# Altium integrated library Altera Cyclone II.IntLib: 234 symbols (part 5 of 38)
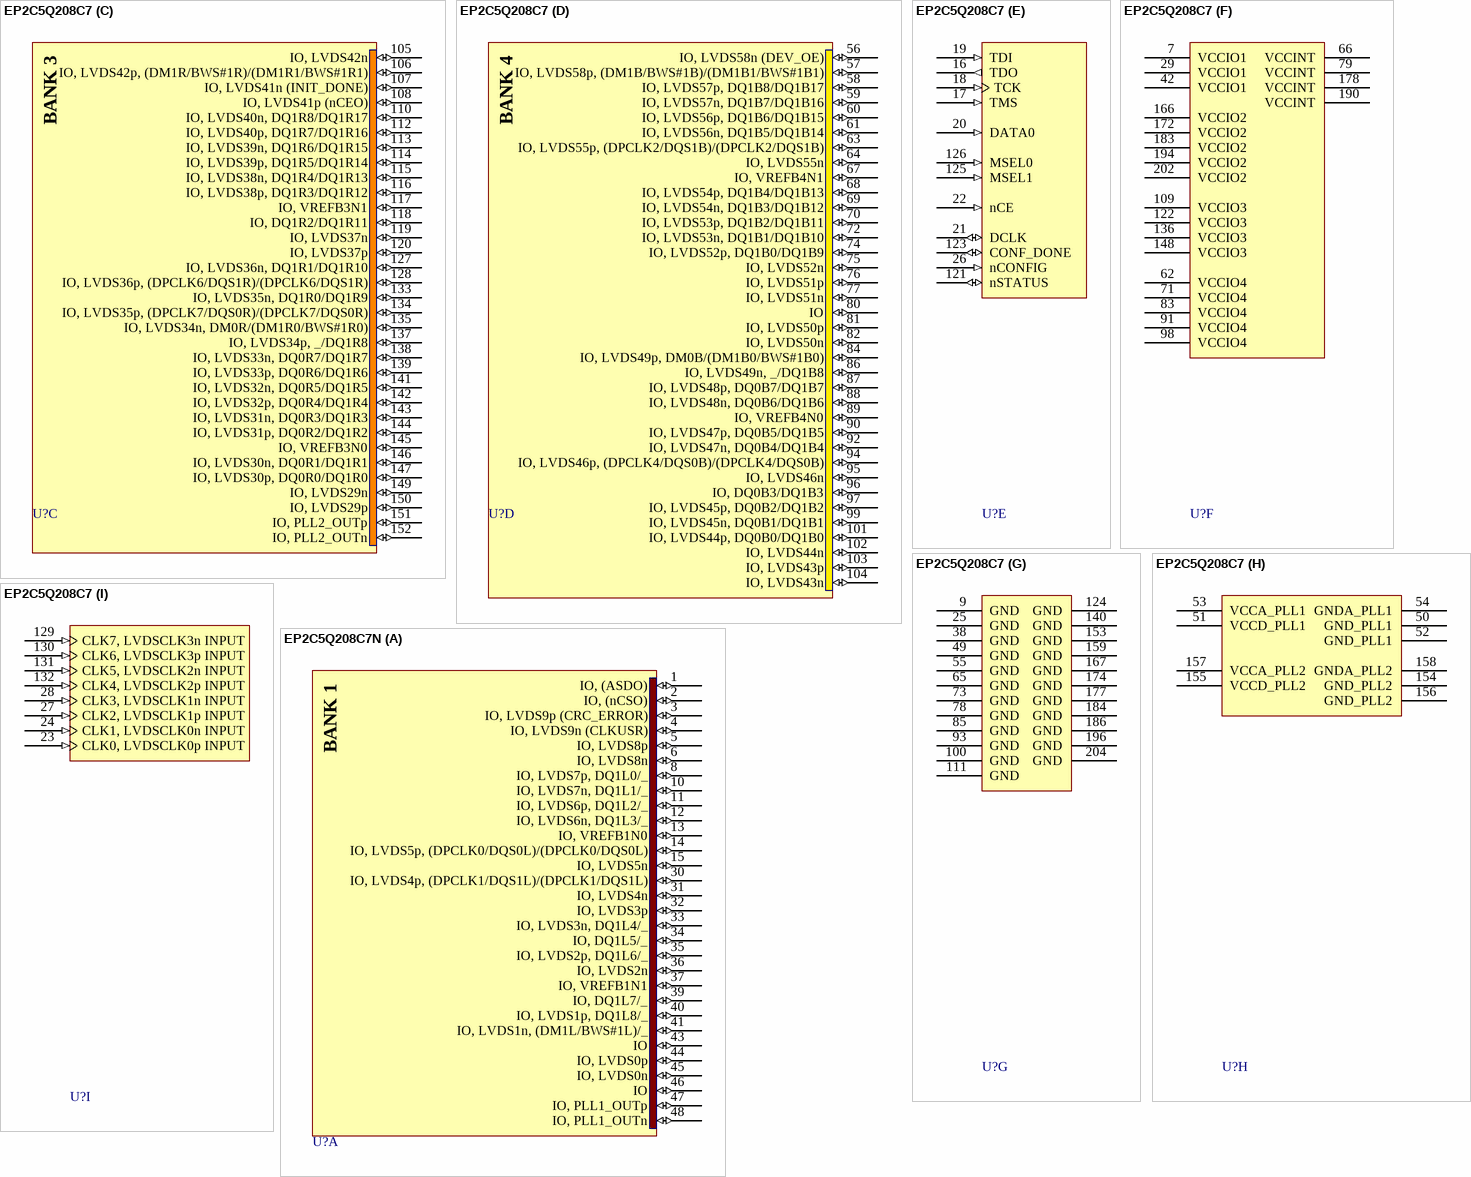
[diagram p401: symbols EP2C5Q208C7 to EP2C5Q208C7N]

## EP2C5Q208C7
designator U?
Cyclone II Family, 1.2V FPGA, 142 I/O Pins, 2 PLLs, 208-Pin PQFP, Speed Grade 7, Commercial Grade; Note: DQS signal pins named according to DQ bus modes.  "/" separates each mode. ie. Modes x8/x9 / Modes x16/x18.; Published: 4-Mar-2005; LatestRevisionDate: 14-May-2007; LatestRevisionNote: DATA0 pin is now INPUT.; DatasheetVersion: ver3.3, Feb-2008; PackageVersion: ver15.4, Dec-2008; PackageReference: PQFP208; Publisher: Altium Limited; PackageDescription: 208-Pin Plastic Quad Flat Pack (PQFP208) - Wire Bond; Supplier 1: Digi-Key; Supplier Part Number 1: 544-1447-ND; Code_JEDEC: MS-029-FA-1; ComponentLink1Description: Manufacturer Link; ComponentLink1URL: http://www.altera.com/products/devices/cyclone2/cy2-index.jsp; ComponentLink2Description: Handbook; ComponentLink2URL: http://www.altera.com/literature/hb/cyc2/cyc2_cii5v1.pdf; ComponentLink3Description: Packaging Specification; ComponentLink3URL: http://www.altera.com/literature/ds/dspkg.pdf
footprint PQFP208_N (Shrink QFP, 208-Leads, Body 28x28mm, Pitch 0.5mm, IPC Medium Density)
footprint PQFP208_L (Shrink QFP, 208-Leads, Body 28x28mm, Pitch 0.5mm, IPC High Density)
footprint PQFP208_M (Shrink QFP, 208-Leads, Body 28x28mm, Pitch 0.5mm, IPC Low Density)
3D model EP2C5-PQFP208 (208-Pin Plastic Quad Flat Pack (PQFP208) - Wire Bond)
signal-integrity model EP2C5Q_208 (Cyclone II)
part A pins: 1 IO, (ASDO) (io), 2 IO, (nCSO) (io), 3 IO, LVDS9p (CRC_ERROR) (io), 4 IO, LVDS9n (CLKUSR) (io), 5 IO, LVDS8p (io), 6 IO, LVDS8n (io), 8 IO, LVDS7p, DQ1L0/_ (io), 10 IO, LVDS7n, DQ1L1/_ (io), 11 IO, LVDS6p, DQ1L2/_ (io), 12 IO, LVDS6n, DQ1L3/_ (io), 13 IO, VREFB1N0 (io), 14 IO, LVDS5p, (DPCLK0/DQS0L)/(DPCLK0/DQS0L) (io), 15 IO, LVDS5n (io), 30 IO, LVDS4p, (DPCLK1/DQS1L)/(DPCLK1/DQS1L) (io), 31 IO, LVDS4n (io), 32 IO, LVDS3p (io), 33 IO, LVDS3n, DQ1L4/_ (io), 34 IO, DQ1L5/_ (io), 35 IO, LVDS2p, DQ1L6/_ (io), 36 IO, LVDS2n (io), 37 IO, VREFB1N1 (io), 39 IO, DQ1L7/_ (io), 40 IO, LVDS1p, DQ1L8/_ (io), 41 IO, LVDS1n, (DM1L/BWS#1L)/_ (io), 43 IO (io), 44 IO, LVDS0p (io), 45 IO, LVDS0n (io), 46 IO (io), 47 IO, PLL1_OUTp (io), 48 IO, PLL1_OUTn (io)
part B pins: 160 IO, LVDS28n (io), 161 IO, LVDS28p, DQ0T0/DQ1T0 (io), 162 IO, LVDS27n, DQ0T1/DQ1T1 (io), 163 IO, LVDS27p, DQ0T2/DQ1T2 (io), 164 IO, LVDS26n, DQ0T3/DQ1T3 (io), 165 IO, LVDS26p, DQ0T4/DQ1T4 (io), 168 IO, LVDS25n (io), 169 IO, LVDS25p, (DPCLK8/DQS0T)/(DPCLK8/DQS0T) (io), 170 IO, VREFB2N0 (io), 171 IO, LVDS24n, DQ0T5/DQ1T5 (io), 173 IO, LVDS24p, DQ0T6/DQ1T6 (io), 175 IO, LVDS23n, DQ0T7/DQ1T7 (io), 176 IO, LVDS23p, _/DQ1T8 (io), 179 IO, LVDS21n, DM0T/(DM1T0/BWS#1T0) (io), 180 IO, LVDS21p (io), 181 IO, LVDS20n (io), 182 IO, LVDS20p (io), 185 IO, DQ1T0/DQ1T9 (io), 187 IO, LVDS19n (io), 188 IO, LVDS19p, DQ1T1/DQ1T10 (io), 189 IO, LVDS18n, DQ1T2/DQ1T11 (io), 191 IO, LVDS18p, DQ1T3/DQ1T12 (io), 192 IO, VREFB2N1 (io), 193 IO, LVDS17n, DQ1T4/DQ1T13 (io), 195 IO, LVDS17p, DQ1T5/DQ1T14 (io), 197 IO, LVDS15n (io), 198 IO, LVDS15p (io), 199 IO, LVDS13n (io), 200 IO, LVDS13p, (DPCLK10/DQS1T)/(DPCLK10/DQS1T) (io), 201 IO, LVDS12n, DQ1T6/DQ1T15 (io), 203 IO, LVDS12p, DQ1T7/DQ1T16 (io), 205 IO, LVDS11p, DQ1T8/DQ1T17 (io), 206 IO, LVDS11n (DEV_CLRn) (io), 207 IO, LVDS10p, (DM1T/BWS#1T)/(DM1T1/BWS#1T1) (io), 208 IO, LVDS10n (io)
part C pins: 105 IO, LVDS42n (io), 106 IO, LVDS42p, (DM1R/BWS#1R)/(DM1R1/BWS#1R1) (io), 107 IO, LVDS41n (INIT_DONE) (io), 108 IO, LVDS41p (nCEO) (io), 110 IO, LVDS40n, DQ1R8/DQ1R17 (io), 112 IO, LVDS40p, DQ1R7/DQ1R16 (io), 113 IO, LVDS39n, DQ1R6/DQ1R15 (io), 114 IO, LVDS39p, DQ1R5/DQ1R14 (io), 115 IO, LVDS38n, DQ1R4/DQ1R13 (io), 116 IO, LVDS38p, DQ1R3/DQ1R12 (io), 117 IO, VREFB3N1 (io), 118 IO, DQ1R2/DQ1R11 (io), 119 IO, LVDS37n (io), 120 IO, LVDS37p (io), 127 IO, LVDS36n, DQ1R1/DQ1R10 (io), 128 IO, LVDS36p, (DPCLK6/DQS1R)/(DPCLK6/DQS1R) (io), 133 IO, LVDS35n, DQ1R0/DQ1R9 (io), 134 IO, LVDS35p, (DPCLK7/DQS0R)/(DPCLK7/DQS0R) (io), 135 IO, LVDS34n, DM0R/(DM1R0/BWS#1R0) (io), 137 IO, LVDS34p, _/DQ1R8 (io), 138 IO, LVDS33n, DQ0R7/DQ1R7 (io), 139 IO, LVDS33p, DQ0R6/DQ1R6 (io), 141 IO, LVDS32n, DQ0R5/DQ1R5 (io), 142 IO, LVDS32p, DQ0R4/DQ1R4 (io), 143 IO, LVDS31n, DQ0R3/DQ1R3 (io), 144 IO, LVDS31p, DQ0R2/DQ1R2 (io), 145 IO, VREFB3N0 (io), 146 IO, LVDS30n, DQ0R1/DQ1R1 (io), 147 IO, LVDS30p, DQ0R0/DQ1R0 (io), 149 IO, LVDS29n (io), 150 IO, LVDS29p (io), 151 IO, PLL2_OUTp (io), 152 IO, PLL2_OUTn (io)
part D pins: 56 IO, LVDS58n (DEV_OE) (io), 57 IO, LVDS58p, (DM1B/BWS#1B)/(DM1B1/BWS#1B1) (io), 58 IO, LVDS57p, DQ1B8/DQ1B17 (io), 59 IO, LVDS57n, DQ1B7/DQ1B16 (io), 60 IO, LVDS56p, DQ1B6/DQ1B15 (io), 61 IO, LVDS56n, DQ1B5/DQ1B14 (io), 63 IO, LVDS55p, (DPCLK2/DQS1B)/(DPCLK2/DQS1B) (io), 64 IO, LVDS55n (io), 67 IO, VREFB4N1 (io), 68 IO, LVDS54p, DQ1B4/DQ1B13 (io), 69 IO, LVDS54n, DQ1B3/DQ1B12 (io), 70 IO, LVDS53p, DQ1B2/DQ1B11 (io), 72 IO, LVDS53n, DQ1B1/DQ1B10 (io), 74 IO, LVDS52p, DQ1B0/DQ1B9 (io), 75 IO, LVDS52n (io), 76 IO, LVDS51p (io), 77 IO, LVDS51n (io), 80 IO (io), 81 IO, LVDS50p (io), 82 IO, LVDS50n (io), 84 IO, LVDS49p, DM0B/(DM1B0/BWS#1B0) (io), 86 IO, LVDS49n, _/DQ1B8 (io), 87 IO, LVDS48p, DQ0B7/DQ1B7 (io), 88 IO, LVDS48n, DQ0B6/DQ1B6 (io), 89 IO, VREFB4N0 (io), 90 IO, LVDS47p, DQ0B5/DQ1B5 (io), 92 IO, LVDS47n, DQ0B4/DQ1B4 (io), 94 IO, LVDS46p, (DPCLK4/DQS0B)/(DPCLK4/DQS0B) (io), 95 IO, LVDS46n (io), 96 IO, DQ0B3/DQ1B3 (io), 97 IO, LVDS45p, DQ0B2/DQ1B2 (io), 99 IO, LVDS45n, DQ0B1/DQ1B1 (io), 101 IO, LVDS44p, DQ0B0/DQ1B0 (io), 102 IO, LVDS44n (io), 103 IO, LVDS43p (io), 104 IO, LVDS43n (io)
part E pins: 16 TDO (out), 17 TMS (in), 18 TCK (in), 19 TDI (in), 20 DATA0 (in), 21 DCLK (io), 22 nCE (in), 26 nCONFIG (in), 121 nSTATUS (io), 123 CONF_DONE (io), 125 MSEL1 (in), 126 MSEL0 (in)
part F pins: 7 VCCIO1 (power), 29 VCCIO1 (power), 42 VCCIO1 (power), 62 VCCIO4 (power), 66 VCCINT (power), 71 VCCIO4 (power), 79 VCCINT (power), 83 VCCIO4 (power), 91 VCCIO4 (power), 98 VCCIO4 (power), 109 VCCIO3 (power), 122 VCCIO3 (power), 136 VCCIO3 (power), 148 VCCIO3 (power), 166 VCCIO2 (power), 172 VCCIO2 (power), 178 VCCINT (power), 183 VCCIO2 (power), 190 VCCINT (power), 194 VCCIO2 (power), 202 VCCIO2 (power)
part G pins: 9 GND (power), 25 GND (power), 38 GND (power), 49 GND (power), 55 GND (power), 65 GND (power), 73 GND (power), 78 GND (power), 85 GND (power), 93 GND (power), 100 GND (power), 111 GND (power), 124 GND (power), 140 GND (power), 153 GND (power), 159 GND (power), 167 GND (power), 174 GND (power), 177 GND (power), 184 GND (power), 186 GND (power), 196 GND (power), 204 GND (power)
part H pins: 50 GND_PLL1 (power), 51 VCCD_PLL1 (power), 52 GND_PLL1 (power), 53 VCCA_PLL1 (power), 54 GNDA_PLL1 (power), 154 GND_PLL2 (power), 155 VCCD_PLL2 (power), 156 GND_PLL2 (power), 157 VCCA_PLL2 (power), 158 GNDA_PLL2 (power)
part I pins: 23 CLK0, LVDSCLK0p INPUT (in), 24 CLK1, LVDSCLK0n INPUT (in), 27 CLK2, LVDSCLK1p INPUT (in), 28 CLK3, LVDSCLK1n INPUT (in), 129 CLK7, LVDSCLK3n INPUT (in), 130 CLK6, LVDSCLK3p INPUT (in), 131 CLK5, LVDSCLK2n INPUT (in), 132 CLK4, LVDSCLK2p INPUT (in)
part A text: BANK 1
part B text: BANK 2
part C text: BANK 3
part D text: BANK 4

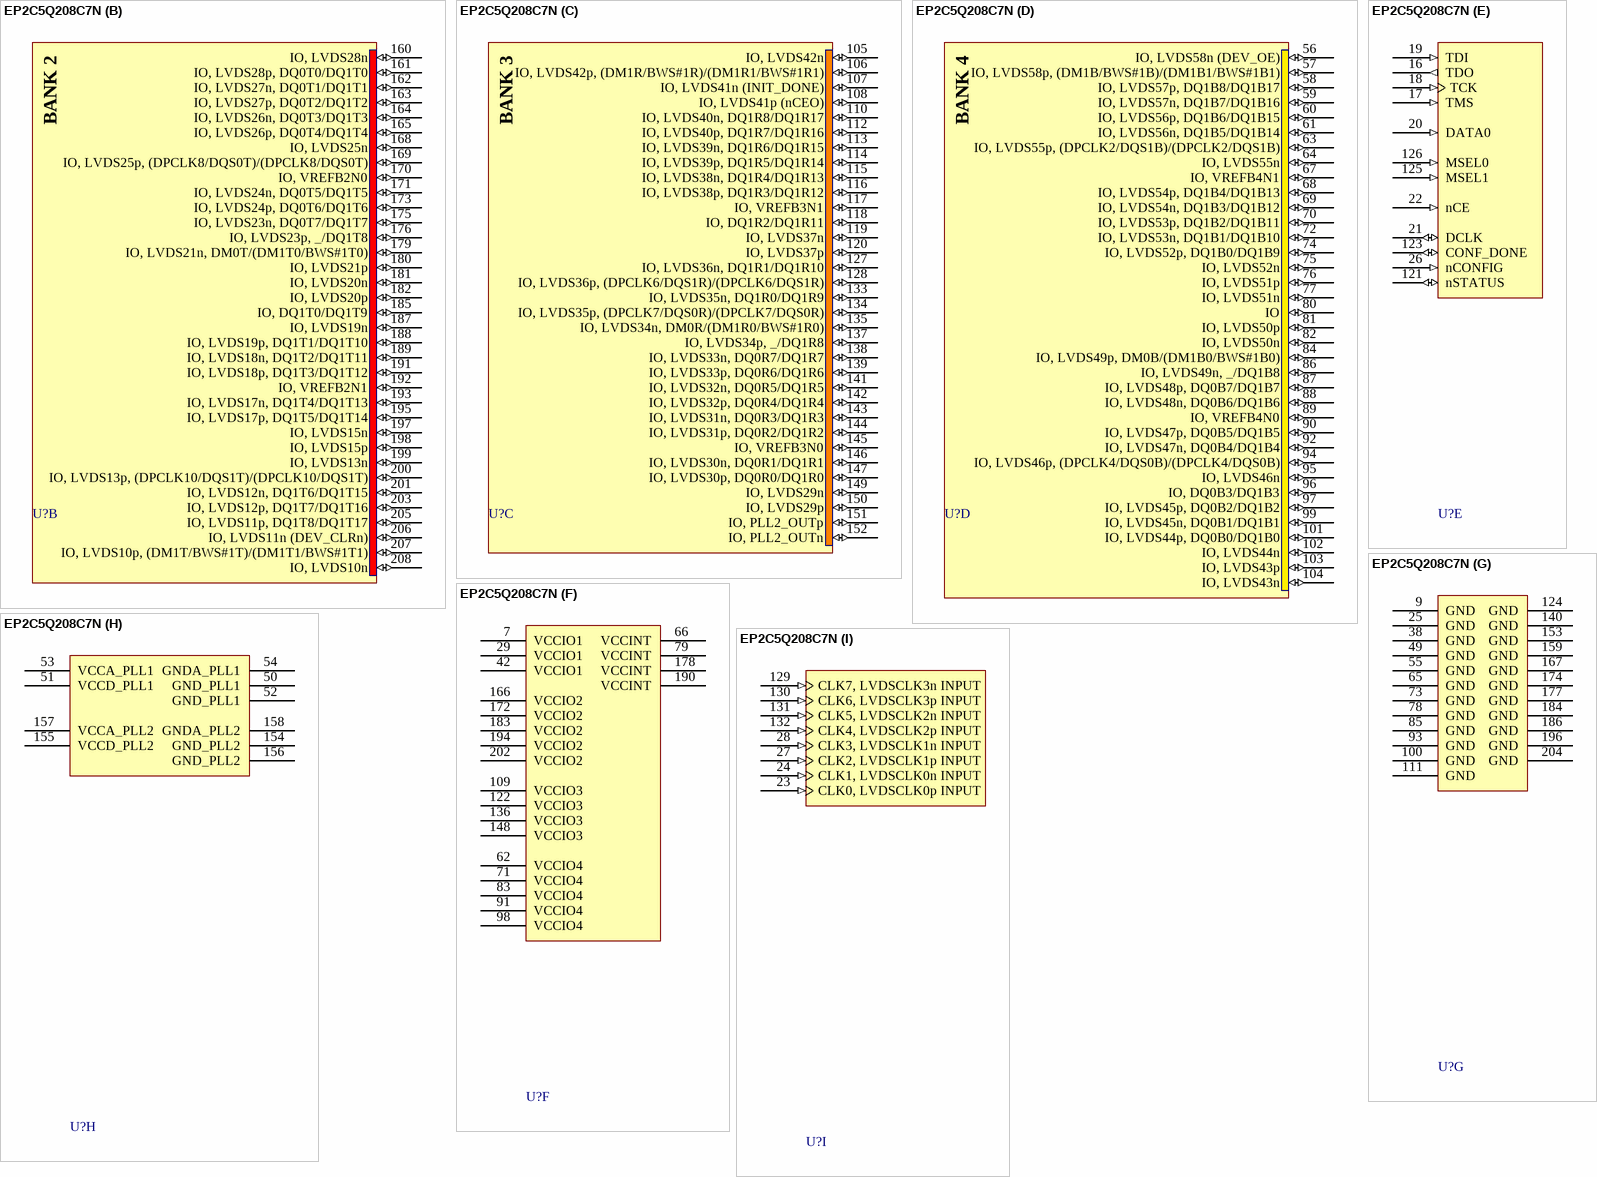
[diagram p18: symbol EP2C5Q208C7N]

## EP2C5Q208C7N
designator U?
Cyclone II Family, 1.2V FPGA, 142 I/O Pins, 2 PLLs, 208-Pin PQFP, Speed Grade 7, Commercial Grade, Pb-Free; Note: DQS signal pins named according to DQ bus modes.  "/" separates each mode. ie. Modes x8/x9 / Modes x16/x18.; Published: 4-Mar-2005; LatestRevisionDate: 14-May-2007; LatestRevisionNote: DATA0 pin is now INPUT.; DatasheetVersion: ver3.3, Feb-2008; PackageVersion: ver15.4, Dec-2008; PackageReference: PQFP208; Publisher: Altium Limited; PackageDescription: 208-Pin Plastic Quad Flat Pack (PQFP208) - Wire Bond; Supplier 1: Digi-Key; Supplier Part Number 1: 544-1674-ND; Code_JEDEC: MS-029-FA-1; ComponentLink1Description: Manufacturer Link; ComponentLink1URL: http://www.altera.com/products/devices/cyclone2/cy2-index.jsp; ComponentLink2Description: Handbook; ComponentLink2URL: http://www.altera.com/literature/hb/cyc2/cyc2_cii5v1.pdf; ComponentLink3Description: Packaging Specification; ComponentLink3URL: http://www.altera.com/literature/ds/dspkg.pdf
footprint PQFP208_N (Shrink QFP, 208-Leads, Body 28x28mm, Pitch 0.5mm, IPC Medium Density)
footprint PQFP208_L (Shrink QFP, 208-Leads, Body 28x28mm, Pitch 0.5mm, IPC High Density)
footprint PQFP208_M (Shrink QFP, 208-Leads, Body 28x28mm, Pitch 0.5mm, IPC Low Density)
3D model EP2C5-PQFP208 (208-Pin Plastic Quad Flat Pack (PQFP208) - Wire Bond)
signal-integrity model EP2C5Q_208 (Cyclone II)
part A pins: 1 IO, (ASDO) (io), 2 IO, (nCSO) (io), 3 IO, LVDS9p (CRC_ERROR) (io), 4 IO, LVDS9n (CLKUSR) (io), 5 IO, LVDS8p (io), 6 IO, LVDS8n (io), 8 IO, LVDS7p, DQ1L0/_ (io), 10 IO, LVDS7n, DQ1L1/_ (io), 11 IO, LVDS6p, DQ1L2/_ (io), 12 IO, LVDS6n, DQ1L3/_ (io), 13 IO, VREFB1N0 (io), 14 IO, LVDS5p, (DPCLK0/DQS0L)/(DPCLK0/DQS0L) (io), 15 IO, LVDS5n (io), 30 IO, LVDS4p, (DPCLK1/DQS1L)/(DPCLK1/DQS1L) (io), 31 IO, LVDS4n (io), 32 IO, LVDS3p (io), 33 IO, LVDS3n, DQ1L4/_ (io), 34 IO, DQ1L5/_ (io), 35 IO, LVDS2p, DQ1L6/_ (io), 36 IO, LVDS2n (io), 37 IO, VREFB1N1 (io), 39 IO, DQ1L7/_ (io), 40 IO, LVDS1p, DQ1L8/_ (io), 41 IO, LVDS1n, (DM1L/BWS#1L)/_ (io), 43 IO (io), 44 IO, LVDS0p (io), 45 IO, LVDS0n (io), 46 IO (io), 47 IO, PLL1_OUTp (io), 48 IO, PLL1_OUTn (io)
part B pins: 160 IO, LVDS28n (io), 161 IO, LVDS28p, DQ0T0/DQ1T0 (io), 162 IO, LVDS27n, DQ0T1/DQ1T1 (io), 163 IO, LVDS27p, DQ0T2/DQ1T2 (io), 164 IO, LVDS26n, DQ0T3/DQ1T3 (io), 165 IO, LVDS26p, DQ0T4/DQ1T4 (io), 168 IO, LVDS25n (io), 169 IO, LVDS25p, (DPCLK8/DQS0T)/(DPCLK8/DQS0T) (io), 170 IO, VREFB2N0 (io), 171 IO, LVDS24n, DQ0T5/DQ1T5 (io), 173 IO, LVDS24p, DQ0T6/DQ1T6 (io), 175 IO, LVDS23n, DQ0T7/DQ1T7 (io), 176 IO, LVDS23p, _/DQ1T8 (io), 179 IO, LVDS21n, DM0T/(DM1T0/BWS#1T0) (io), 180 IO, LVDS21p (io), 181 IO, LVDS20n (io), 182 IO, LVDS20p (io), 185 IO, DQ1T0/DQ1T9 (io), 187 IO, LVDS19n (io), 188 IO, LVDS19p, DQ1T1/DQ1T10 (io), 189 IO, LVDS18n, DQ1T2/DQ1T11 (io), 191 IO, LVDS18p, DQ1T3/DQ1T12 (io), 192 IO, VREFB2N1 (io), 193 IO, LVDS17n, DQ1T4/DQ1T13 (io), 195 IO, LVDS17p, DQ1T5/DQ1T14 (io), 197 IO, LVDS15n (io), 198 IO, LVDS15p (io), 199 IO, LVDS13n (io), 200 IO, LVDS13p, (DPCLK10/DQS1T)/(DPCLK10/DQS1T) (io), 201 IO, LVDS12n, DQ1T6/DQ1T15 (io), 203 IO, LVDS12p, DQ1T7/DQ1T16 (io), 205 IO, LVDS11p, DQ1T8/DQ1T17 (io), 206 IO, LVDS11n (DEV_CLRn) (io), 207 IO, LVDS10p, (DM1T/BWS#1T)/(DM1T1/BWS#1T1) (io), 208 IO, LVDS10n (io)
part C pins: 105 IO, LVDS42n (io), 106 IO, LVDS42p, (DM1R/BWS#1R)/(DM1R1/BWS#1R1) (io), 107 IO, LVDS41n (INIT_DONE) (io), 108 IO, LVDS41p (nCEO) (io), 110 IO, LVDS40n, DQ1R8/DQ1R17 (io), 112 IO, LVDS40p, DQ1R7/DQ1R16 (io), 113 IO, LVDS39n, DQ1R6/DQ1R15 (io), 114 IO, LVDS39p, DQ1R5/DQ1R14 (io), 115 IO, LVDS38n, DQ1R4/DQ1R13 (io), 116 IO, LVDS38p, DQ1R3/DQ1R12 (io), 117 IO, VREFB3N1 (io), 118 IO, DQ1R2/DQ1R11 (io), 119 IO, LVDS37n (io), 120 IO, LVDS37p (io), 127 IO, LVDS36n, DQ1R1/DQ1R10 (io), 128 IO, LVDS36p, (DPCLK6/DQS1R)/(DPCLK6/DQS1R) (io), 133 IO, LVDS35n, DQ1R0/DQ1R9 (io), 134 IO, LVDS35p, (DPCLK7/DQS0R)/(DPCLK7/DQS0R) (io), 135 IO, LVDS34n, DM0R/(DM1R0/BWS#1R0) (io), 137 IO, LVDS34p, _/DQ1R8 (io), 138 IO, LVDS33n, DQ0R7/DQ1R7 (io), 139 IO, LVDS33p, DQ0R6/DQ1R6 (io), 141 IO, LVDS32n, DQ0R5/DQ1R5 (io), 142 IO, LVDS32p, DQ0R4/DQ1R4 (io), 143 IO, LVDS31n, DQ0R3/DQ1R3 (io), 144 IO, LVDS31p, DQ0R2/DQ1R2 (io), 145 IO, VREFB3N0 (io), 146 IO, LVDS30n, DQ0R1/DQ1R1 (io), 147 IO, LVDS30p, DQ0R0/DQ1R0 (io), 149 IO, LVDS29n (io), 150 IO, LVDS29p (io), 151 IO, PLL2_OUTp (io), 152 IO, PLL2_OUTn (io)
part D pins: 56 IO, LVDS58n (DEV_OE) (io), 57 IO, LVDS58p, (DM1B/BWS#1B)/(DM1B1/BWS#1B1) (io), 58 IO, LVDS57p, DQ1B8/DQ1B17 (io), 59 IO, LVDS57n, DQ1B7/DQ1B16 (io), 60 IO, LVDS56p, DQ1B6/DQ1B15 (io), 61 IO, LVDS56n, DQ1B5/DQ1B14 (io), 63 IO, LVDS55p, (DPCLK2/DQS1B)/(DPCLK2/DQS1B) (io), 64 IO, LVDS55n (io), 67 IO, VREFB4N1 (io), 68 IO, LVDS54p, DQ1B4/DQ1B13 (io), 69 IO, LVDS54n, DQ1B3/DQ1B12 (io), 70 IO, LVDS53p, DQ1B2/DQ1B11 (io), 72 IO, LVDS53n, DQ1B1/DQ1B10 (io), 74 IO, LVDS52p, DQ1B0/DQ1B9 (io), 75 IO, LVDS52n (io), 76 IO, LVDS51p (io), 77 IO, LVDS51n (io), 80 IO (io), 81 IO, LVDS50p (io), 82 IO, LVDS50n (io), 84 IO, LVDS49p, DM0B/(DM1B0/BWS#1B0) (io), 86 IO, LVDS49n, _/DQ1B8 (io), 87 IO, LVDS48p, DQ0B7/DQ1B7 (io), 88 IO, LVDS48n, DQ0B6/DQ1B6 (io), 89 IO, VREFB4N0 (io), 90 IO, LVDS47p, DQ0B5/DQ1B5 (io), 92 IO, LVDS47n, DQ0B4/DQ1B4 (io), 94 IO, LVDS46p, (DPCLK4/DQS0B)/(DPCLK4/DQS0B) (io), 95 IO, LVDS46n (io), 96 IO, DQ0B3/DQ1B3 (io), 97 IO, LVDS45p, DQ0B2/DQ1B2 (io), 99 IO, LVDS45n, DQ0B1/DQ1B1 (io), 101 IO, LVDS44p, DQ0B0/DQ1B0 (io), 102 IO, LVDS44n (io), 103 IO, LVDS43p (io), 104 IO, LVDS43n (io)
part E pins: 16 TDO (out), 17 TMS (in), 18 TCK (in), 19 TDI (in), 20 DATA0 (in), 21 DCLK (io), 22 nCE (in), 26 nCONFIG (in), 121 nSTATUS (io), 123 CONF_DONE (io), 125 MSEL1 (in), 126 MSEL0 (in)
part F pins: 7 VCCIO1 (power), 29 VCCIO1 (power), 42 VCCIO1 (power), 62 VCCIO4 (power), 66 VCCINT (power), 71 VCCIO4 (power), 79 VCCINT (power), 83 VCCIO4 (power), 91 VCCIO4 (power), 98 VCCIO4 (power), 109 VCCIO3 (power), 122 VCCIO3 (power), 136 VCCIO3 (power), 148 VCCIO3 (power), 166 VCCIO2 (power), 172 VCCIO2 (power), 178 VCCINT (power), 183 VCCIO2 (power), 190 VCCINT (power), 194 VCCIO2 (power), 202 VCCIO2 (power)
part G pins: 9 GND (power), 25 GND (power), 38 GND (power), 49 GND (power), 55 GND (power), 65 GND (power), 73 GND (power), 78 GND (power), 85 GND (power), 93 GND (power), 100 GND (power), 111 GND (power), 124 GND (power), 140 GND (power), 153 GND (power), 159 GND (power), 167 GND (power), 174 GND (power), 177 GND (power), 184 GND (power), 186 GND (power), 196 GND (power), 204 GND (power)
part H pins: 50 GND_PLL1 (power), 51 VCCD_PLL1 (power), 52 GND_PLL1 (power), 53 VCCA_PLL1 (power), 54 GNDA_PLL1 (power), 154 GND_PLL2 (power), 155 VCCD_PLL2 (power), 156 GND_PLL2 (power), 157 VCCA_PLL2 (power), 158 GNDA_PLL2 (power)
part I pins: 23 CLK0, LVDSCLK0p INPUT (in), 24 CLK1, LVDSCLK0n INPUT (in), 27 CLK2, LVDSCLK1p INPUT (in), 28 CLK3, LVDSCLK1n INPUT (in), 129 CLK7, LVDSCLK3n INPUT (in), 130 CLK6, LVDSCLK3p INPUT (in), 131 CLK5, LVDSCLK2n INPUT (in), 132 CLK4, LVDSCLK2p INPUT (in)
part A text: BANK 1
part B text: BANK 2
part C text: BANK 3
part D text: BANK 4

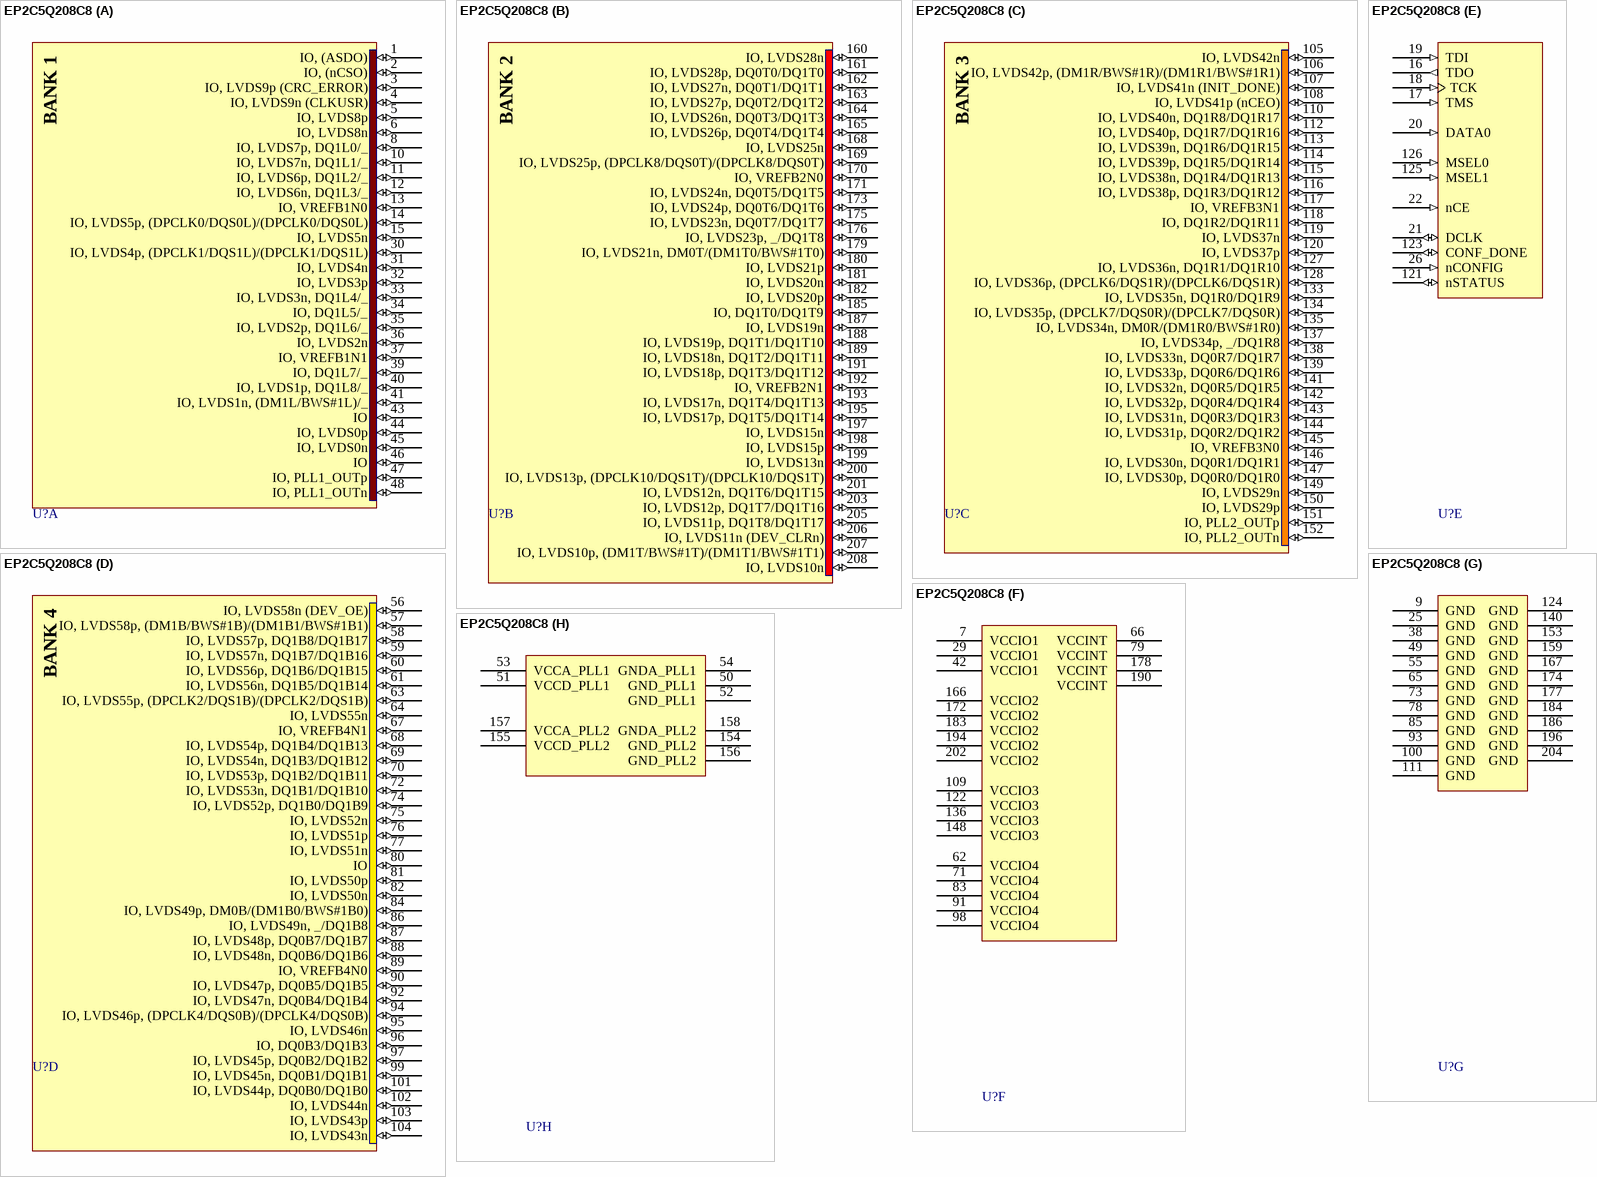
[diagram p19: symbol EP2C5Q208C8]

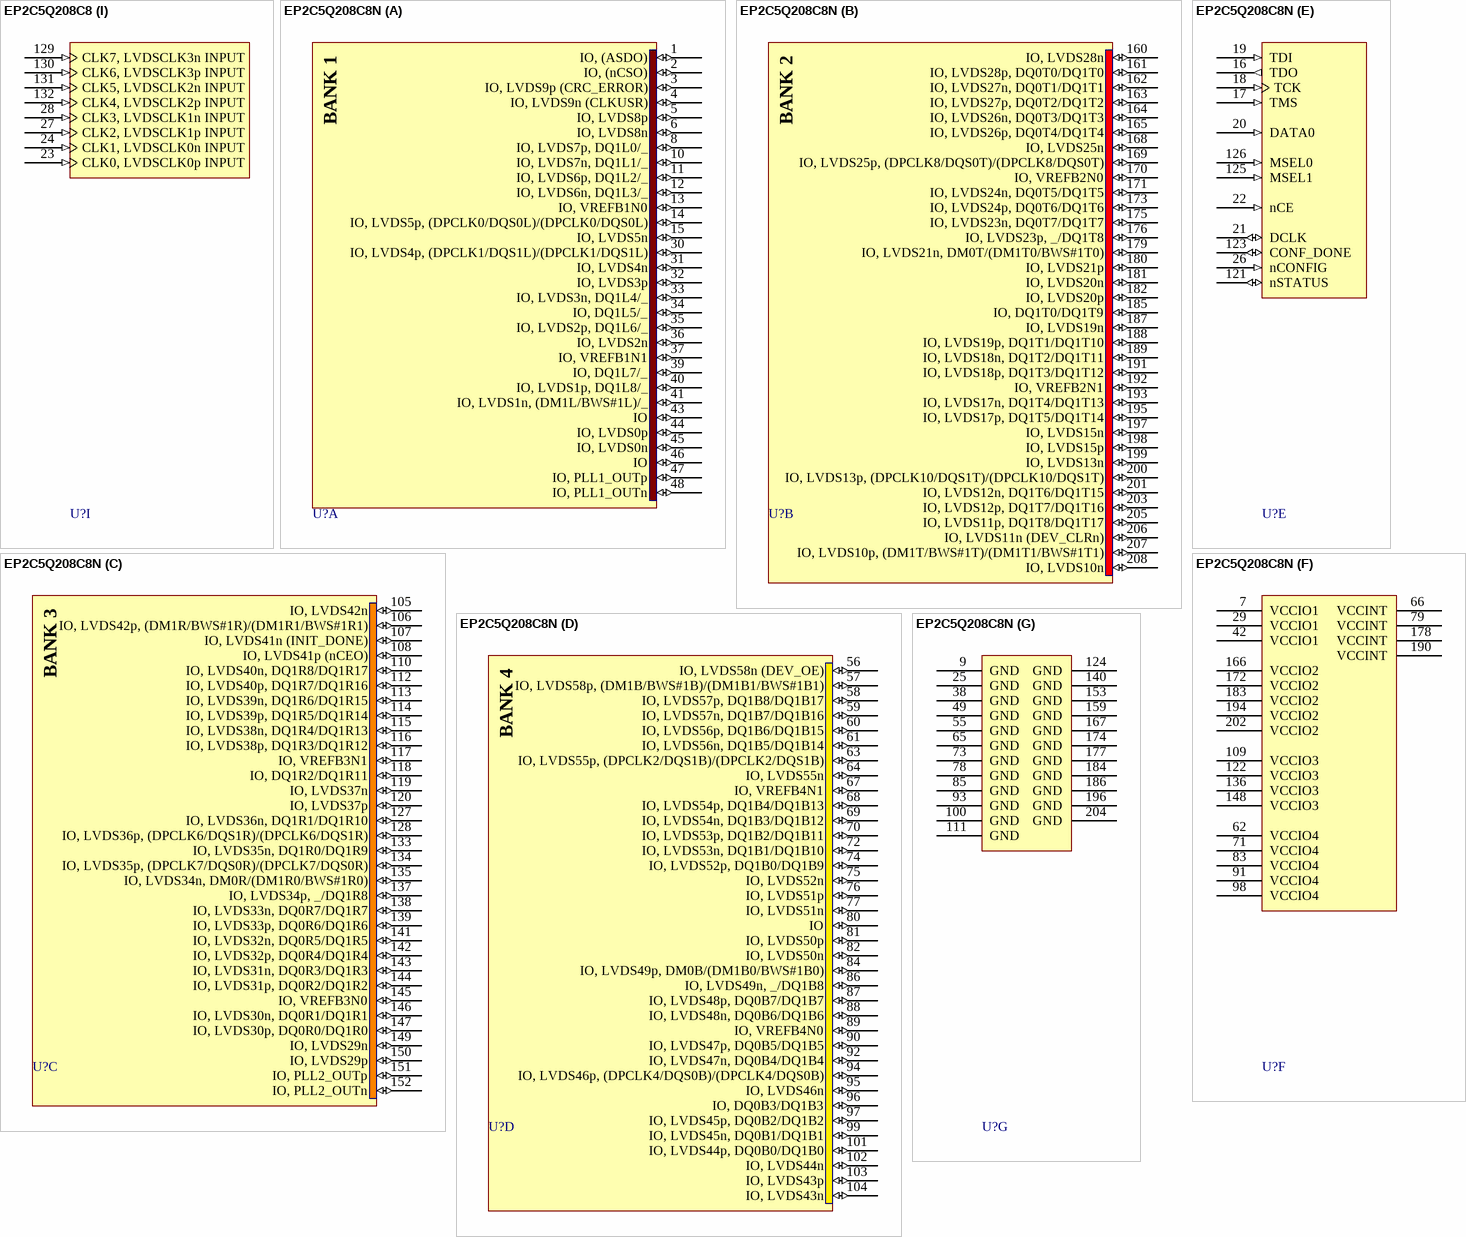
[diagram p20: symbols EP2C5Q208C8 to EP2C5Q208C8N]

## EP2C5Q208C8
designator U?
Cyclone II Family, 1.2V FPGA, 142 I/O Pins, 2 PLLs, 208-Pin PQFP, Speed Grade 8, Commercial Grade; Note: DQS signal pins named according to DQ bus modes.  "/" separates each mode. ie. Modes x8/x9 / Modes x16/x18.; Published: 4-Mar-2005; LatestRevisionDate: 14-May-2007; LatestRevisionNote: DATA0 pin is now INPUT.; DatasheetVersion: ver3.3, Feb-2008; PackageVersion: ver15.4, Dec-2008; PackageReference: PQFP208; Publisher: Altium Limited; PackageDescription: 208-Pin Plastic Quad Flat Pack (PQFP208) - Wire Bond; Supplier 1: Digi-Key; Supplier Part Number 1: 544-1448-ND; Code_JEDEC: MS-029-FA-1; ComponentLink1Description: Manufacturer Link; ComponentLink1URL: http://www.altera.com/products/devices/cyclone2/cy2-index.jsp; ComponentLink2Description: Handbook; ComponentLink2URL: http://www.altera.com/literature/hb/cyc2/cyc2_cii5v1.pdf; ComponentLink3Description: Packaging Specification; ComponentLink3URL: http://www.altera.com/literature/ds/dspkg.pdf
footprint PQFP208_N (Shrink QFP, 208-Leads, Body 28x28mm, Pitch 0.5mm, IPC Medium Density)
footprint PQFP208_L (Shrink QFP, 208-Leads, Body 28x28mm, Pitch 0.5mm, IPC High Density)
footprint PQFP208_M (Shrink QFP, 208-Leads, Body 28x28mm, Pitch 0.5mm, IPC Low Density)
3D model EP2C5-PQFP208 (208-Pin Plastic Quad Flat Pack (PQFP208) - Wire Bond)
signal-integrity model EP2C5Q_208 (Cyclone II)
part A pins: 1 IO, (ASDO) (io), 2 IO, (nCSO) (io), 3 IO, LVDS9p (CRC_ERROR) (io), 4 IO, LVDS9n (CLKUSR) (io), 5 IO, LVDS8p (io), 6 IO, LVDS8n (io), 8 IO, LVDS7p, DQ1L0/_ (io), 10 IO, LVDS7n, DQ1L1/_ (io), 11 IO, LVDS6p, DQ1L2/_ (io), 12 IO, LVDS6n, DQ1L3/_ (io), 13 IO, VREFB1N0 (io), 14 IO, LVDS5p, (DPCLK0/DQS0L)/(DPCLK0/DQS0L) (io), 15 IO, LVDS5n (io), 30 IO, LVDS4p, (DPCLK1/DQS1L)/(DPCLK1/DQS1L) (io), 31 IO, LVDS4n (io), 32 IO, LVDS3p (io), 33 IO, LVDS3n, DQ1L4/_ (io), 34 IO, DQ1L5/_ (io), 35 IO, LVDS2p, DQ1L6/_ (io), 36 IO, LVDS2n (io), 37 IO, VREFB1N1 (io), 39 IO, DQ1L7/_ (io), 40 IO, LVDS1p, DQ1L8/_ (io), 41 IO, LVDS1n, (DM1L/BWS#1L)/_ (io), 43 IO (io), 44 IO, LVDS0p (io), 45 IO, LVDS0n (io), 46 IO (io), 47 IO, PLL1_OUTp (io), 48 IO, PLL1_OUTn (io)
part B pins: 160 IO, LVDS28n (io), 161 IO, LVDS28p, DQ0T0/DQ1T0 (io), 162 IO, LVDS27n, DQ0T1/DQ1T1 (io), 163 IO, LVDS27p, DQ0T2/DQ1T2 (io), 164 IO, LVDS26n, DQ0T3/DQ1T3 (io), 165 IO, LVDS26p, DQ0T4/DQ1T4 (io), 168 IO, LVDS25n (io), 169 IO, LVDS25p, (DPCLK8/DQS0T)/(DPCLK8/DQS0T) (io), 170 IO, VREFB2N0 (io), 171 IO, LVDS24n, DQ0T5/DQ1T5 (io), 173 IO, LVDS24p, DQ0T6/DQ1T6 (io), 175 IO, LVDS23n, DQ0T7/DQ1T7 (io), 176 IO, LVDS23p, _/DQ1T8 (io), 179 IO, LVDS21n, DM0T/(DM1T0/BWS#1T0) (io), 180 IO, LVDS21p (io), 181 IO, LVDS20n (io), 182 IO, LVDS20p (io), 185 IO, DQ1T0/DQ1T9 (io), 187 IO, LVDS19n (io), 188 IO, LVDS19p, DQ1T1/DQ1T10 (io), 189 IO, LVDS18n, DQ1T2/DQ1T11 (io), 191 IO, LVDS18p, DQ1T3/DQ1T12 (io), 192 IO, VREFB2N1 (io), 193 IO, LVDS17n, DQ1T4/DQ1T13 (io), 195 IO, LVDS17p, DQ1T5/DQ1T14 (io), 197 IO, LVDS15n (io), 198 IO, LVDS15p (io), 199 IO, LVDS13n (io), 200 IO, LVDS13p, (DPCLK10/DQS1T)/(DPCLK10/DQS1T) (io), 201 IO, LVDS12n, DQ1T6/DQ1T15 (io), 203 IO, LVDS12p, DQ1T7/DQ1T16 (io), 205 IO, LVDS11p, DQ1T8/DQ1T17 (io), 206 IO, LVDS11n (DEV_CLRn) (io), 207 IO, LVDS10p, (DM1T/BWS#1T)/(DM1T1/BWS#1T1) (io), 208 IO, LVDS10n (io)
part C pins: 105 IO, LVDS42n (io), 106 IO, LVDS42p, (DM1R/BWS#1R)/(DM1R1/BWS#1R1) (io), 107 IO, LVDS41n (INIT_DONE) (io), 108 IO, LVDS41p (nCEO) (io), 110 IO, LVDS40n, DQ1R8/DQ1R17 (io), 112 IO, LVDS40p, DQ1R7/DQ1R16 (io), 113 IO, LVDS39n, DQ1R6/DQ1R15 (io), 114 IO, LVDS39p, DQ1R5/DQ1R14 (io), 115 IO, LVDS38n, DQ1R4/DQ1R13 (io), 116 IO, LVDS38p, DQ1R3/DQ1R12 (io), 117 IO, VREFB3N1 (io), 118 IO, DQ1R2/DQ1R11 (io), 119 IO, LVDS37n (io), 120 IO, LVDS37p (io), 127 IO, LVDS36n, DQ1R1/DQ1R10 (io), 128 IO, LVDS36p, (DPCLK6/DQS1R)/(DPCLK6/DQS1R) (io), 133 IO, LVDS35n, DQ1R0/DQ1R9 (io), 134 IO, LVDS35p, (DPCLK7/DQS0R)/(DPCLK7/DQS0R) (io), 135 IO, LVDS34n, DM0R/(DM1R0/BWS#1R0) (io), 137 IO, LVDS34p, _/DQ1R8 (io), 138 IO, LVDS33n, DQ0R7/DQ1R7 (io), 139 IO, LVDS33p, DQ0R6/DQ1R6 (io), 141 IO, LVDS32n, DQ0R5/DQ1R5 (io), 142 IO, LVDS32p, DQ0R4/DQ1R4 (io), 143 IO, LVDS31n, DQ0R3/DQ1R3 (io), 144 IO, LVDS31p, DQ0R2/DQ1R2 (io), 145 IO, VREFB3N0 (io), 146 IO, LVDS30n, DQ0R1/DQ1R1 (io), 147 IO, LVDS30p, DQ0R0/DQ1R0 (io), 149 IO, LVDS29n (io), 150 IO, LVDS29p (io), 151 IO, PLL2_OUTp (io), 152 IO, PLL2_OUTn (io)
part D pins: 56 IO, LVDS58n (DEV_OE) (io), 57 IO, LVDS58p, (DM1B/BWS#1B)/(DM1B1/BWS#1B1) (io), 58 IO, LVDS57p, DQ1B8/DQ1B17 (io), 59 IO, LVDS57n, DQ1B7/DQ1B16 (io), 60 IO, LVDS56p, DQ1B6/DQ1B15 (io), 61 IO, LVDS56n, DQ1B5/DQ1B14 (io), 63 IO, LVDS55p, (DPCLK2/DQS1B)/(DPCLK2/DQS1B) (io), 64 IO, LVDS55n (io), 67 IO, VREFB4N1 (io), 68 IO, LVDS54p, DQ1B4/DQ1B13 (io), 69 IO, LVDS54n, DQ1B3/DQ1B12 (io), 70 IO, LVDS53p, DQ1B2/DQ1B11 (io), 72 IO, LVDS53n, DQ1B1/DQ1B10 (io), 74 IO, LVDS52p, DQ1B0/DQ1B9 (io), 75 IO, LVDS52n (io), 76 IO, LVDS51p (io), 77 IO, LVDS51n (io), 80 IO (io), 81 IO, LVDS50p (io), 82 IO, LVDS50n (io), 84 IO, LVDS49p, DM0B/(DM1B0/BWS#1B0) (io), 86 IO, LVDS49n, _/DQ1B8 (io), 87 IO, LVDS48p, DQ0B7/DQ1B7 (io), 88 IO, LVDS48n, DQ0B6/DQ1B6 (io), 89 IO, VREFB4N0 (io), 90 IO, LVDS47p, DQ0B5/DQ1B5 (io), 92 IO, LVDS47n, DQ0B4/DQ1B4 (io), 94 IO, LVDS46p, (DPCLK4/DQS0B)/(DPCLK4/DQS0B) (io), 95 IO, LVDS46n (io), 96 IO, DQ0B3/DQ1B3 (io), 97 IO, LVDS45p, DQ0B2/DQ1B2 (io), 99 IO, LVDS45n, DQ0B1/DQ1B1 (io), 101 IO, LVDS44p, DQ0B0/DQ1B0 (io), 102 IO, LVDS44n (io), 103 IO, LVDS43p (io), 104 IO, LVDS43n (io)
part E pins: 16 TDO (out), 17 TMS (in), 18 TCK (in), 19 TDI (in), 20 DATA0 (in), 21 DCLK (io), 22 nCE (in), 26 nCONFIG (in), 121 nSTATUS (io), 123 CONF_DONE (io), 125 MSEL1 (in), 126 MSEL0 (in)
part F pins: 7 VCCIO1 (power), 29 VCCIO1 (power), 42 VCCIO1 (power), 62 VCCIO4 (power), 66 VCCINT (power), 71 VCCIO4 (power), 79 VCCINT (power), 83 VCCIO4 (power), 91 VCCIO4 (power), 98 VCCIO4 (power), 109 VCCIO3 (power), 122 VCCIO3 (power), 136 VCCIO3 (power), 148 VCCIO3 (power), 166 VCCIO2 (power), 172 VCCIO2 (power), 178 VCCINT (power), 183 VCCIO2 (power), 190 VCCINT (power), 194 VCCIO2 (power), 202 VCCIO2 (power)
part G pins: 9 GND (power), 25 GND (power), 38 GND (power), 49 GND (power), 55 GND (power), 65 GND (power), 73 GND (power), 78 GND (power), 85 GND (power), 93 GND (power), 100 GND (power), 111 GND (power), 124 GND (power), 140 GND (power), 153 GND (power), 159 GND (power), 167 GND (power), 174 GND (power), 177 GND (power), 184 GND (power), 186 GND (power), 196 GND (power), 204 GND (power)
part H pins: 50 GND_PLL1 (power), 51 VCCD_PLL1 (power), 52 GND_PLL1 (power), 53 VCCA_PLL1 (power), 54 GNDA_PLL1 (power), 154 GND_PLL2 (power), 155 VCCD_PLL2 (power), 156 GND_PLL2 (power), 157 VCCA_PLL2 (power), 158 GNDA_PLL2 (power)
part I pins: 23 CLK0, LVDSCLK0p INPUT (in), 24 CLK1, LVDSCLK0n INPUT (in), 27 CLK2, LVDSCLK1p INPUT (in), 28 CLK3, LVDSCLK1n INPUT (in), 129 CLK7, LVDSCLK3n INPUT (in), 130 CLK6, LVDSCLK3p INPUT (in), 131 CLK5, LVDSCLK2n INPUT (in), 132 CLK4, LVDSCLK2p INPUT (in)
part A text: BANK 1
part B text: BANK 2
part C text: BANK 3
part D text: BANK 4

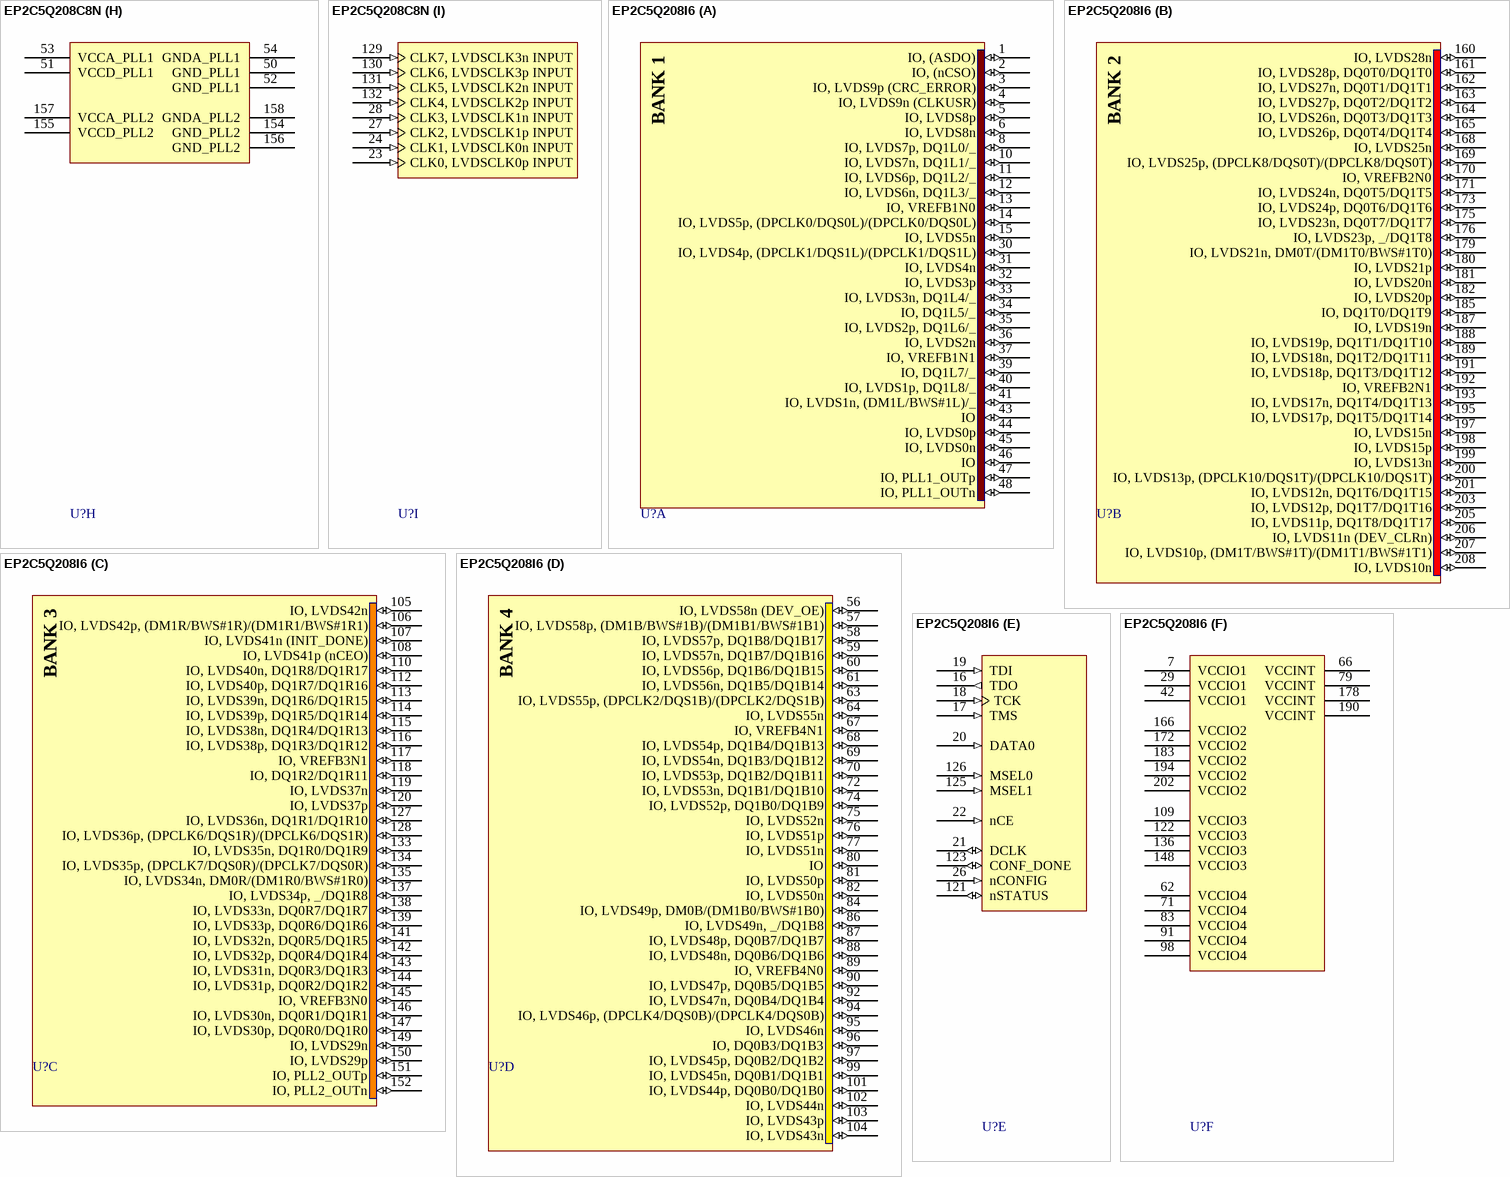
[diagram p21: symbols EP2C5Q208C8N to EP2C5Q208I6]

## EP2C5Q208C8N
designator U?
Cyclone II Family, 1.2V FPGA, 142 I/O Pins, 2 PLLs, 208-Pin PQFP, Speed Grade 8, Commercial Grade, Pb-Free; Note: DQS signal pins named according to DQ bus modes.  "/" separates each mode. ie. Modes x8/x9 / Modes x16/x18.; Published: 4-Mar-2005; LatestRevisionDate: 14-May-2007; LatestRevisionNote: DATA0 pin is now INPUT.; DatasheetVersion: ver3.3, Feb-2008; PackageVersion: ver15.4, Dec-2008; PackageReference: PQFP208; Publisher: Altium Limited; PackageDescription: 208-Pin Plastic Quad Flat Pack (PQFP208) - Wire Bond; Supplier 1: Digi-Key; Supplier Part Number 1: 544-1673-ND; Supplier 2: Farnell; Supplier Part Number 2: 1635081; Code_JEDEC: MS-029-FA-1; ComponentLink1Description: Manufacturer Link; ComponentLink1URL: http://www.altera.com/products/devices/cyclone2/cy2-index.jsp; ComponentLink2Description: Handbook; ComponentLink2URL: http://www.altera.com/literature/hb/cyc2/cyc2_cii5v1.pdf; ComponentLink3Description: Packaging Specification; ComponentLink3URL: http://www.altera.com/literature/ds/dspkg.pdf
footprint PQFP208_N (Shrink QFP, 208-Leads, Body 28x28mm, Pitch 0.5mm, IPC Medium Density)
footprint PQFP208_L (Shrink QFP, 208-Leads, Body 28x28mm, Pitch 0.5mm, IPC High Density)
footprint PQFP208_M (Shrink QFP, 208-Leads, Body 28x28mm, Pitch 0.5mm, IPC Low Density)
3D model EP2C5-PQFP208 (208-Pin Plastic Quad Flat Pack (PQFP208) - Wire Bond)
signal-integrity model EP2C5Q_208 (Cyclone II)
part A pins: 1 IO, (ASDO) (io), 2 IO, (nCSO) (io), 3 IO, LVDS9p (CRC_ERROR) (io), 4 IO, LVDS9n (CLKUSR) (io), 5 IO, LVDS8p (io), 6 IO, LVDS8n (io), 8 IO, LVDS7p, DQ1L0/_ (io), 10 IO, LVDS7n, DQ1L1/_ (io), 11 IO, LVDS6p, DQ1L2/_ (io), 12 IO, LVDS6n, DQ1L3/_ (io), 13 IO, VREFB1N0 (io), 14 IO, LVDS5p, (DPCLK0/DQS0L)/(DPCLK0/DQS0L) (io), 15 IO, LVDS5n (io), 30 IO, LVDS4p, (DPCLK1/DQS1L)/(DPCLK1/DQS1L) (io), 31 IO, LVDS4n (io), 32 IO, LVDS3p (io), 33 IO, LVDS3n, DQ1L4/_ (io), 34 IO, DQ1L5/_ (io), 35 IO, LVDS2p, DQ1L6/_ (io), 36 IO, LVDS2n (io), 37 IO, VREFB1N1 (io), 39 IO, DQ1L7/_ (io), 40 IO, LVDS1p, DQ1L8/_ (io), 41 IO, LVDS1n, (DM1L/BWS#1L)/_ (io), 43 IO (io), 44 IO, LVDS0p (io), 45 IO, LVDS0n (io), 46 IO (io), 47 IO, PLL1_OUTp (io), 48 IO, PLL1_OUTn (io)
part B pins: 160 IO, LVDS28n (io), 161 IO, LVDS28p, DQ0T0/DQ1T0 (io), 162 IO, LVDS27n, DQ0T1/DQ1T1 (io), 163 IO, LVDS27p, DQ0T2/DQ1T2 (io), 164 IO, LVDS26n, DQ0T3/DQ1T3 (io), 165 IO, LVDS26p, DQ0T4/DQ1T4 (io), 168 IO, LVDS25n (io), 169 IO, LVDS25p, (DPCLK8/DQS0T)/(DPCLK8/DQS0T) (io), 170 IO, VREFB2N0 (io), 171 IO, LVDS24n, DQ0T5/DQ1T5 (io), 173 IO, LVDS24p, DQ0T6/DQ1T6 (io), 175 IO, LVDS23n, DQ0T7/DQ1T7 (io), 176 IO, LVDS23p, _/DQ1T8 (io), 179 IO, LVDS21n, DM0T/(DM1T0/BWS#1T0) (io), 180 IO, LVDS21p (io), 181 IO, LVDS20n (io), 182 IO, LVDS20p (io), 185 IO, DQ1T0/DQ1T9 (io), 187 IO, LVDS19n (io), 188 IO, LVDS19p, DQ1T1/DQ1T10 (io), 189 IO, LVDS18n, DQ1T2/DQ1T11 (io), 191 IO, LVDS18p, DQ1T3/DQ1T12 (io), 192 IO, VREFB2N1 (io), 193 IO, LVDS17n, DQ1T4/DQ1T13 (io), 195 IO, LVDS17p, DQ1T5/DQ1T14 (io), 197 IO, LVDS15n (io), 198 IO, LVDS15p (io), 199 IO, LVDS13n (io), 200 IO, LVDS13p, (DPCLK10/DQS1T)/(DPCLK10/DQS1T) (io), 201 IO, LVDS12n, DQ1T6/DQ1T15 (io), 203 IO, LVDS12p, DQ1T7/DQ1T16 (io), 205 IO, LVDS11p, DQ1T8/DQ1T17 (io), 206 IO, LVDS11n (DEV_CLRn) (io), 207 IO, LVDS10p, (DM1T/BWS#1T)/(DM1T1/BWS#1T1) (io), 208 IO, LVDS10n (io)
part C pins: 105 IO, LVDS42n (io), 106 IO, LVDS42p, (DM1R/BWS#1R)/(DM1R1/BWS#1R1) (io), 107 IO, LVDS41n (INIT_DONE) (io), 108 IO, LVDS41p (nCEO) (io), 110 IO, LVDS40n, DQ1R8/DQ1R17 (io), 112 IO, LVDS40p, DQ1R7/DQ1R16 (io), 113 IO, LVDS39n, DQ1R6/DQ1R15 (io), 114 IO, LVDS39p, DQ1R5/DQ1R14 (io), 115 IO, LVDS38n, DQ1R4/DQ1R13 (io), 116 IO, LVDS38p, DQ1R3/DQ1R12 (io), 117 IO, VREFB3N1 (io), 118 IO, DQ1R2/DQ1R11 (io), 119 IO, LVDS37n (io), 120 IO, LVDS37p (io), 127 IO, LVDS36n, DQ1R1/DQ1R10 (io), 128 IO, LVDS36p, (DPCLK6/DQS1R)/(DPCLK6/DQS1R) (io), 133 IO, LVDS35n, DQ1R0/DQ1R9 (io), 134 IO, LVDS35p, (DPCLK7/DQS0R)/(DPCLK7/DQS0R) (io), 135 IO, LVDS34n, DM0R/(DM1R0/BWS#1R0) (io), 137 IO, LVDS34p, _/DQ1R8 (io), 138 IO, LVDS33n, DQ0R7/DQ1R7 (io), 139 IO, LVDS33p, DQ0R6/DQ1R6 (io), 141 IO, LVDS32n, DQ0R5/DQ1R5 (io), 142 IO, LVDS32p, DQ0R4/DQ1R4 (io), 143 IO, LVDS31n, DQ0R3/DQ1R3 (io), 144 IO, LVDS31p, DQ0R2/DQ1R2 (io), 145 IO, VREFB3N0 (io), 146 IO, LVDS30n, DQ0R1/DQ1R1 (io), 147 IO, LVDS30p, DQ0R0/DQ1R0 (io), 149 IO, LVDS29n (io), 150 IO, LVDS29p (io), 151 IO, PLL2_OUTp (io), 152 IO, PLL2_OUTn (io)
part D pins: 56 IO, LVDS58n (DEV_OE) (io), 57 IO, LVDS58p, (DM1B/BWS#1B)/(DM1B1/BWS#1B1) (io), 58 IO, LVDS57p, DQ1B8/DQ1B17 (io), 59 IO, LVDS57n, DQ1B7/DQ1B16 (io), 60 IO, LVDS56p, DQ1B6/DQ1B15 (io), 61 IO, LVDS56n, DQ1B5/DQ1B14 (io), 63 IO, LVDS55p, (DPCLK2/DQS1B)/(DPCLK2/DQS1B) (io), 64 IO, LVDS55n (io), 67 IO, VREFB4N1 (io), 68 IO, LVDS54p, DQ1B4/DQ1B13 (io), 69 IO, LVDS54n, DQ1B3/DQ1B12 (io), 70 IO, LVDS53p, DQ1B2/DQ1B11 (io), 72 IO, LVDS53n, DQ1B1/DQ1B10 (io), 74 IO, LVDS52p, DQ1B0/DQ1B9 (io), 75 IO, LVDS52n (io), 76 IO, LVDS51p (io), 77 IO, LVDS51n (io), 80 IO (io), 81 IO, LVDS50p (io), 82 IO, LVDS50n (io), 84 IO, LVDS49p, DM0B/(DM1B0/BWS#1B0) (io), 86 IO, LVDS49n, _/DQ1B8 (io), 87 IO, LVDS48p, DQ0B7/DQ1B7 (io), 88 IO, LVDS48n, DQ0B6/DQ1B6 (io), 89 IO, VREFB4N0 (io), 90 IO, LVDS47p, DQ0B5/DQ1B5 (io), 92 IO, LVDS47n, DQ0B4/DQ1B4 (io), 94 IO, LVDS46p, (DPCLK4/DQS0B)/(DPCLK4/DQS0B) (io), 95 IO, LVDS46n (io), 96 IO, DQ0B3/DQ1B3 (io), 97 IO, LVDS45p, DQ0B2/DQ1B2 (io), 99 IO, LVDS45n, DQ0B1/DQ1B1 (io), 101 IO, LVDS44p, DQ0B0/DQ1B0 (io), 102 IO, LVDS44n (io), 103 IO, LVDS43p (io), 104 IO, LVDS43n (io)
part E pins: 16 TDO (out), 17 TMS (in), 18 TCK (in), 19 TDI (in), 20 DATA0 (in), 21 DCLK (io), 22 nCE (in), 26 nCONFIG (in), 121 nSTATUS (io), 123 CONF_DONE (io), 125 MSEL1 (in), 126 MSEL0 (in)
part F pins: 7 VCCIO1 (power), 29 VCCIO1 (power), 42 VCCIO1 (power), 62 VCCIO4 (power), 66 VCCINT (power), 71 VCCIO4 (power), 79 VCCINT (power), 83 VCCIO4 (power), 91 VCCIO4 (power), 98 VCCIO4 (power), 109 VCCIO3 (power), 122 VCCIO3 (power), 136 VCCIO3 (power), 148 VCCIO3 (power), 166 VCCIO2 (power), 172 VCCIO2 (power), 178 VCCINT (power), 183 VCCIO2 (power), 190 VCCINT (power), 194 VCCIO2 (power), 202 VCCIO2 (power)
part G pins: 9 GND (power), 25 GND (power), 38 GND (power), 49 GND (power), 55 GND (power), 65 GND (power), 73 GND (power), 78 GND (power), 85 GND (power), 93 GND (power), 100 GND (power), 111 GND (power), 124 GND (power), 140 GND (power), 153 GND (power), 159 GND (power), 167 GND (power), 174 GND (power), 177 GND (power), 184 GND (power), 186 GND (power), 196 GND (power), 204 GND (power)
part H pins: 50 GND_PLL1 (power), 51 VCCD_PLL1 (power), 52 GND_PLL1 (power), 53 VCCA_PLL1 (power), 54 GNDA_PLL1 (power), 154 GND_PLL2 (power), 155 VCCD_PLL2 (power), 156 GND_PLL2 (power), 157 VCCA_PLL2 (power), 158 GNDA_PLL2 (power)
part I pins: 23 CLK0, LVDSCLK0p INPUT (in), 24 CLK1, LVDSCLK0n INPUT (in), 27 CLK2, LVDSCLK1p INPUT (in), 28 CLK3, LVDSCLK1n INPUT (in), 129 CLK7, LVDSCLK3n INPUT (in), 130 CLK6, LVDSCLK3p INPUT (in), 131 CLK5, LVDSCLK2n INPUT (in), 132 CLK4, LVDSCLK2p INPUT (in)
part A text: BANK 1
part B text: BANK 2
part C text: BANK 3
part D text: BANK 4

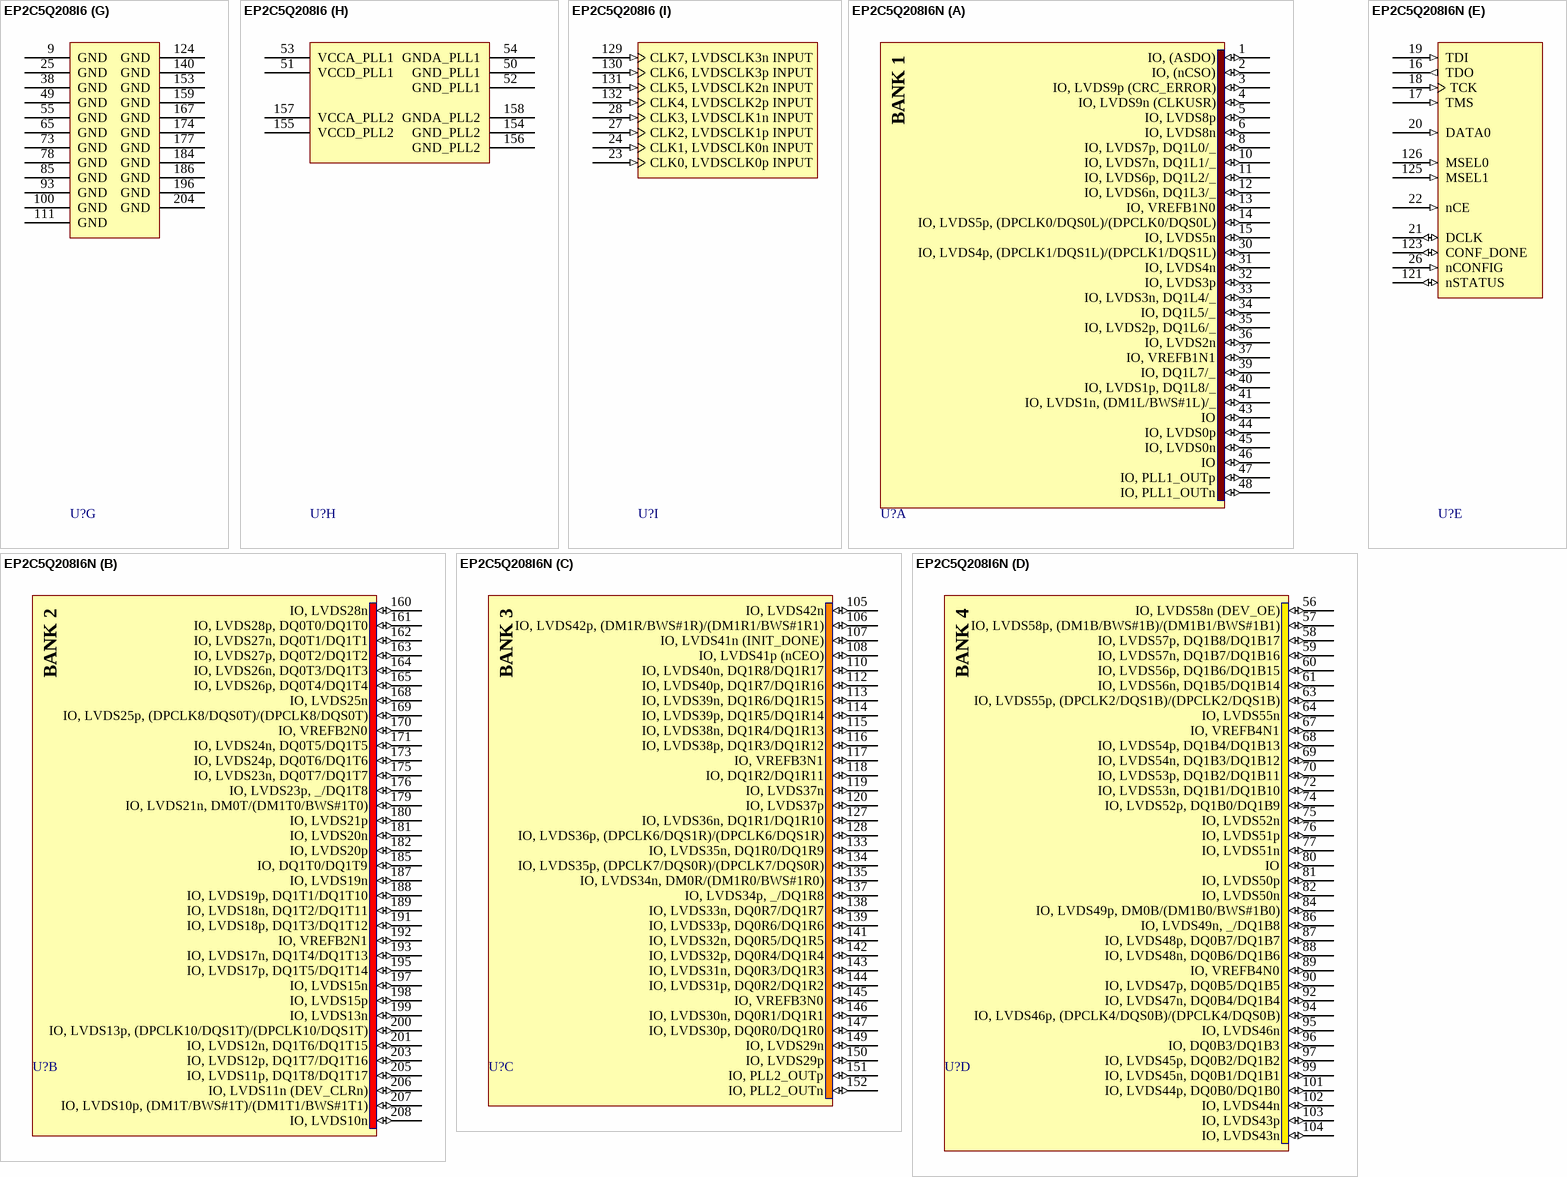
[diagram p22: symbols EP2C5Q208I6 to EP2C5Q208I6N]

## EP2C5Q208I6
designator U?
Cyclone II Family, 1.2V FPGA, 142 I/O Pins, 2 PLLs, 208-Pin PQFP, Speed Grade 6, Industrial Grade; Note: DQS signal pins named according to DQ bus modes.  "/" separates each mode. ie. Modes x8/x9 / Modes x16/x18.; Published: 2-Mar-2006; LatestRevisionDate: 14-May-2007; LatestRevisionNote: DATA0 pin is now INPUT.; DatasheetVersion: ver3.3, Feb-2008; PackageVersion: ver15.4, Dec-2008; PackageReference: PQFP208; Publisher: Altium Limited; PackageDescription: 208-Pin Plastic Quad Flat Pack (PQFP208) - Wire Bond; Status: Not listed in latest datasheet.; Code_JEDEC: MS-029-FA-1; ComponentLink1Description: Manufacturer Link; ComponentLink1URL: http://www.altera.com/products/devices/cyclone2/cy2-index.jsp; ComponentLink2Description: Handbook; ComponentLink2URL: http://www.altera.com/literature/hb/cyc2/cyc2_cii5v1.pdf; ComponentLink3Description: Packaging Specification; ComponentLink3URL: http://www.altera.com/literature/ds/dspkg.pdf
footprint PQFP208_N (Shrink QFP, 208-Leads, Body 28x28mm, Pitch 0.5mm, IPC Medium Density)
footprint PQFP208_L (Shrink QFP, 208-Leads, Body 28x28mm, Pitch 0.5mm, IPC High Density)
footprint PQFP208_M (Shrink QFP, 208-Leads, Body 28x28mm, Pitch 0.5mm, IPC Low Density)
3D model EP2C5-PQFP208 (208-Pin Plastic Quad Flat Pack (PQFP208) - Wire Bond)
signal-integrity model EP2C5Q_208 (Cyclone II)
part A pins: 1 IO, (ASDO) (io), 2 IO, (nCSO) (io), 3 IO, LVDS9p (CRC_ERROR) (io), 4 IO, LVDS9n (CLKUSR) (io), 5 IO, LVDS8p (io), 6 IO, LVDS8n (io), 8 IO, LVDS7p, DQ1L0/_ (io), 10 IO, LVDS7n, DQ1L1/_ (io), 11 IO, LVDS6p, DQ1L2/_ (io), 12 IO, LVDS6n, DQ1L3/_ (io), 13 IO, VREFB1N0 (io), 14 IO, LVDS5p, (DPCLK0/DQS0L)/(DPCLK0/DQS0L) (io), 15 IO, LVDS5n (io), 30 IO, LVDS4p, (DPCLK1/DQS1L)/(DPCLK1/DQS1L) (io), 31 IO, LVDS4n (io), 32 IO, LVDS3p (io), 33 IO, LVDS3n, DQ1L4/_ (io), 34 IO, DQ1L5/_ (io), 35 IO, LVDS2p, DQ1L6/_ (io), 36 IO, LVDS2n (io), 37 IO, VREFB1N1 (io), 39 IO, DQ1L7/_ (io), 40 IO, LVDS1p, DQ1L8/_ (io), 41 IO, LVDS1n, (DM1L/BWS#1L)/_ (io), 43 IO (io), 44 IO, LVDS0p (io), 45 IO, LVDS0n (io), 46 IO (io), 47 IO, PLL1_OUTp (io), 48 IO, PLL1_OUTn (io)
part B pins: 160 IO, LVDS28n (io), 161 IO, LVDS28p, DQ0T0/DQ1T0 (io), 162 IO, LVDS27n, DQ0T1/DQ1T1 (io), 163 IO, LVDS27p, DQ0T2/DQ1T2 (io), 164 IO, LVDS26n, DQ0T3/DQ1T3 (io), 165 IO, LVDS26p, DQ0T4/DQ1T4 (io), 168 IO, LVDS25n (io), 169 IO, LVDS25p, (DPCLK8/DQS0T)/(DPCLK8/DQS0T) (io), 170 IO, VREFB2N0 (io), 171 IO, LVDS24n, DQ0T5/DQ1T5 (io), 173 IO, LVDS24p, DQ0T6/DQ1T6 (io), 175 IO, LVDS23n, DQ0T7/DQ1T7 (io), 176 IO, LVDS23p, _/DQ1T8 (io), 179 IO, LVDS21n, DM0T/(DM1T0/BWS#1T0) (io), 180 IO, LVDS21p (io), 181 IO, LVDS20n (io), 182 IO, LVDS20p (io), 185 IO, DQ1T0/DQ1T9 (io), 187 IO, LVDS19n (io), 188 IO, LVDS19p, DQ1T1/DQ1T10 (io), 189 IO, LVDS18n, DQ1T2/DQ1T11 (io), 191 IO, LVDS18p, DQ1T3/DQ1T12 (io), 192 IO, VREFB2N1 (io), 193 IO, LVDS17n, DQ1T4/DQ1T13 (io), 195 IO, LVDS17p, DQ1T5/DQ1T14 (io), 197 IO, LVDS15n (io), 198 IO, LVDS15p (io), 199 IO, LVDS13n (io), 200 IO, LVDS13p, (DPCLK10/DQS1T)/(DPCLK10/DQS1T) (io), 201 IO, LVDS12n, DQ1T6/DQ1T15 (io), 203 IO, LVDS12p, DQ1T7/DQ1T16 (io), 205 IO, LVDS11p, DQ1T8/DQ1T17 (io), 206 IO, LVDS11n (DEV_CLRn) (io), 207 IO, LVDS10p, (DM1T/BWS#1T)/(DM1T1/BWS#1T1) (io), 208 IO, LVDS10n (io)
part C pins: 105 IO, LVDS42n (io), 106 IO, LVDS42p, (DM1R/BWS#1R)/(DM1R1/BWS#1R1) (io), 107 IO, LVDS41n (INIT_DONE) (io), 108 IO, LVDS41p (nCEO) (io), 110 IO, LVDS40n, DQ1R8/DQ1R17 (io), 112 IO, LVDS40p, DQ1R7/DQ1R16 (io), 113 IO, LVDS39n, DQ1R6/DQ1R15 (io), 114 IO, LVDS39p, DQ1R5/DQ1R14 (io), 115 IO, LVDS38n, DQ1R4/DQ1R13 (io), 116 IO, LVDS38p, DQ1R3/DQ1R12 (io), 117 IO, VREFB3N1 (io), 118 IO, DQ1R2/DQ1R11 (io), 119 IO, LVDS37n (io), 120 IO, LVDS37p (io), 127 IO, LVDS36n, DQ1R1/DQ1R10 (io), 128 IO, LVDS36p, (DPCLK6/DQS1R)/(DPCLK6/DQS1R) (io), 133 IO, LVDS35n, DQ1R0/DQ1R9 (io), 134 IO, LVDS35p, (DPCLK7/DQS0R)/(DPCLK7/DQS0R) (io), 135 IO, LVDS34n, DM0R/(DM1R0/BWS#1R0) (io), 137 IO, LVDS34p, _/DQ1R8 (io), 138 IO, LVDS33n, DQ0R7/DQ1R7 (io), 139 IO, LVDS33p, DQ0R6/DQ1R6 (io), 141 IO, LVDS32n, DQ0R5/DQ1R5 (io), 142 IO, LVDS32p, DQ0R4/DQ1R4 (io), 143 IO, LVDS31n, DQ0R3/DQ1R3 (io), 144 IO, LVDS31p, DQ0R2/DQ1R2 (io), 145 IO, VREFB3N0 (io), 146 IO, LVDS30n, DQ0R1/DQ1R1 (io), 147 IO, LVDS30p, DQ0R0/DQ1R0 (io), 149 IO, LVDS29n (io), 150 IO, LVDS29p (io), 151 IO, PLL2_OUTp (io), 152 IO, PLL2_OUTn (io)
part D pins: 56 IO, LVDS58n (DEV_OE) (io), 57 IO, LVDS58p, (DM1B/BWS#1B)/(DM1B1/BWS#1B1) (io), 58 IO, LVDS57p, DQ1B8/DQ1B17 (io), 59 IO, LVDS57n, DQ1B7/DQ1B16 (io), 60 IO, LVDS56p, DQ1B6/DQ1B15 (io), 61 IO, LVDS56n, DQ1B5/DQ1B14 (io), 63 IO, LVDS55p, (DPCLK2/DQS1B)/(DPCLK2/DQS1B) (io), 64 IO, LVDS55n (io), 67 IO, VREFB4N1 (io), 68 IO, LVDS54p, DQ1B4/DQ1B13 (io), 69 IO, LVDS54n, DQ1B3/DQ1B12 (io), 70 IO, LVDS53p, DQ1B2/DQ1B11 (io), 72 IO, LVDS53n, DQ1B1/DQ1B10 (io), 74 IO, LVDS52p, DQ1B0/DQ1B9 (io), 75 IO, LVDS52n (io), 76 IO, LVDS51p (io), 77 IO, LVDS51n (io), 80 IO (io), 81 IO, LVDS50p (io), 82 IO, LVDS50n (io), 84 IO, LVDS49p, DM0B/(DM1B0/BWS#1B0) (io), 86 IO, LVDS49n, _/DQ1B8 (io), 87 IO, LVDS48p, DQ0B7/DQ1B7 (io), 88 IO, LVDS48n, DQ0B6/DQ1B6 (io), 89 IO, VREFB4N0 (io), 90 IO, LVDS47p, DQ0B5/DQ1B5 (io), 92 IO, LVDS47n, DQ0B4/DQ1B4 (io), 94 IO, LVDS46p, (DPCLK4/DQS0B)/(DPCLK4/DQS0B) (io), 95 IO, LVDS46n (io), 96 IO, DQ0B3/DQ1B3 (io), 97 IO, LVDS45p, DQ0B2/DQ1B2 (io), 99 IO, LVDS45n, DQ0B1/DQ1B1 (io), 101 IO, LVDS44p, DQ0B0/DQ1B0 (io), 102 IO, LVDS44n (io), 103 IO, LVDS43p (io), 104 IO, LVDS43n (io)
part E pins: 16 TDO (out), 17 TMS (in), 18 TCK (in), 19 TDI (in), 20 DATA0 (in), 21 DCLK (io), 22 nCE (in), 26 nCONFIG (in), 121 nSTATUS (io), 123 CONF_DONE (io), 125 MSEL1 (in), 126 MSEL0 (in)
part F pins: 7 VCCIO1 (power), 29 VCCIO1 (power), 42 VCCIO1 (power), 62 VCCIO4 (power), 66 VCCINT (power), 71 VCCIO4 (power), 79 VCCINT (power), 83 VCCIO4 (power), 91 VCCIO4 (power), 98 VCCIO4 (power), 109 VCCIO3 (power), 122 VCCIO3 (power), 136 VCCIO3 (power), 148 VCCIO3 (power), 166 VCCIO2 (power), 172 VCCIO2 (power), 178 VCCINT (power), 183 VCCIO2 (power), 190 VCCINT (power), 194 VCCIO2 (power), 202 VCCIO2 (power)
part G pins: 9 GND (power), 25 GND (power), 38 GND (power), 49 GND (power), 55 GND (power), 65 GND (power), 73 GND (power), 78 GND (power), 85 GND (power), 93 GND (power), 100 GND (power), 111 GND (power), 124 GND (power), 140 GND (power), 153 GND (power), 159 GND (power), 167 GND (power), 174 GND (power), 177 GND (power), 184 GND (power), 186 GND (power), 196 GND (power), 204 GND (power)
part H pins: 50 GND_PLL1 (power), 51 VCCD_PLL1 (power), 52 GND_PLL1 (power), 53 VCCA_PLL1 (power), 54 GNDA_PLL1 (power), 154 GND_PLL2 (power), 155 VCCD_PLL2 (power), 156 GND_PLL2 (power), 157 VCCA_PLL2 (power), 158 GNDA_PLL2 (power)
part I pins: 23 CLK0, LVDSCLK0p INPUT (in), 24 CLK1, LVDSCLK0n INPUT (in), 27 CLK2, LVDSCLK1p INPUT (in), 28 CLK3, LVDSCLK1n INPUT (in), 129 CLK7, LVDSCLK3n INPUT (in), 130 CLK6, LVDSCLK3p INPUT (in), 131 CLK5, LVDSCLK2n INPUT (in), 132 CLK4, LVDSCLK2p INPUT (in)
part A text: BANK 1
part B text: BANK 2
part C text: BANK 3
part D text: BANK 4

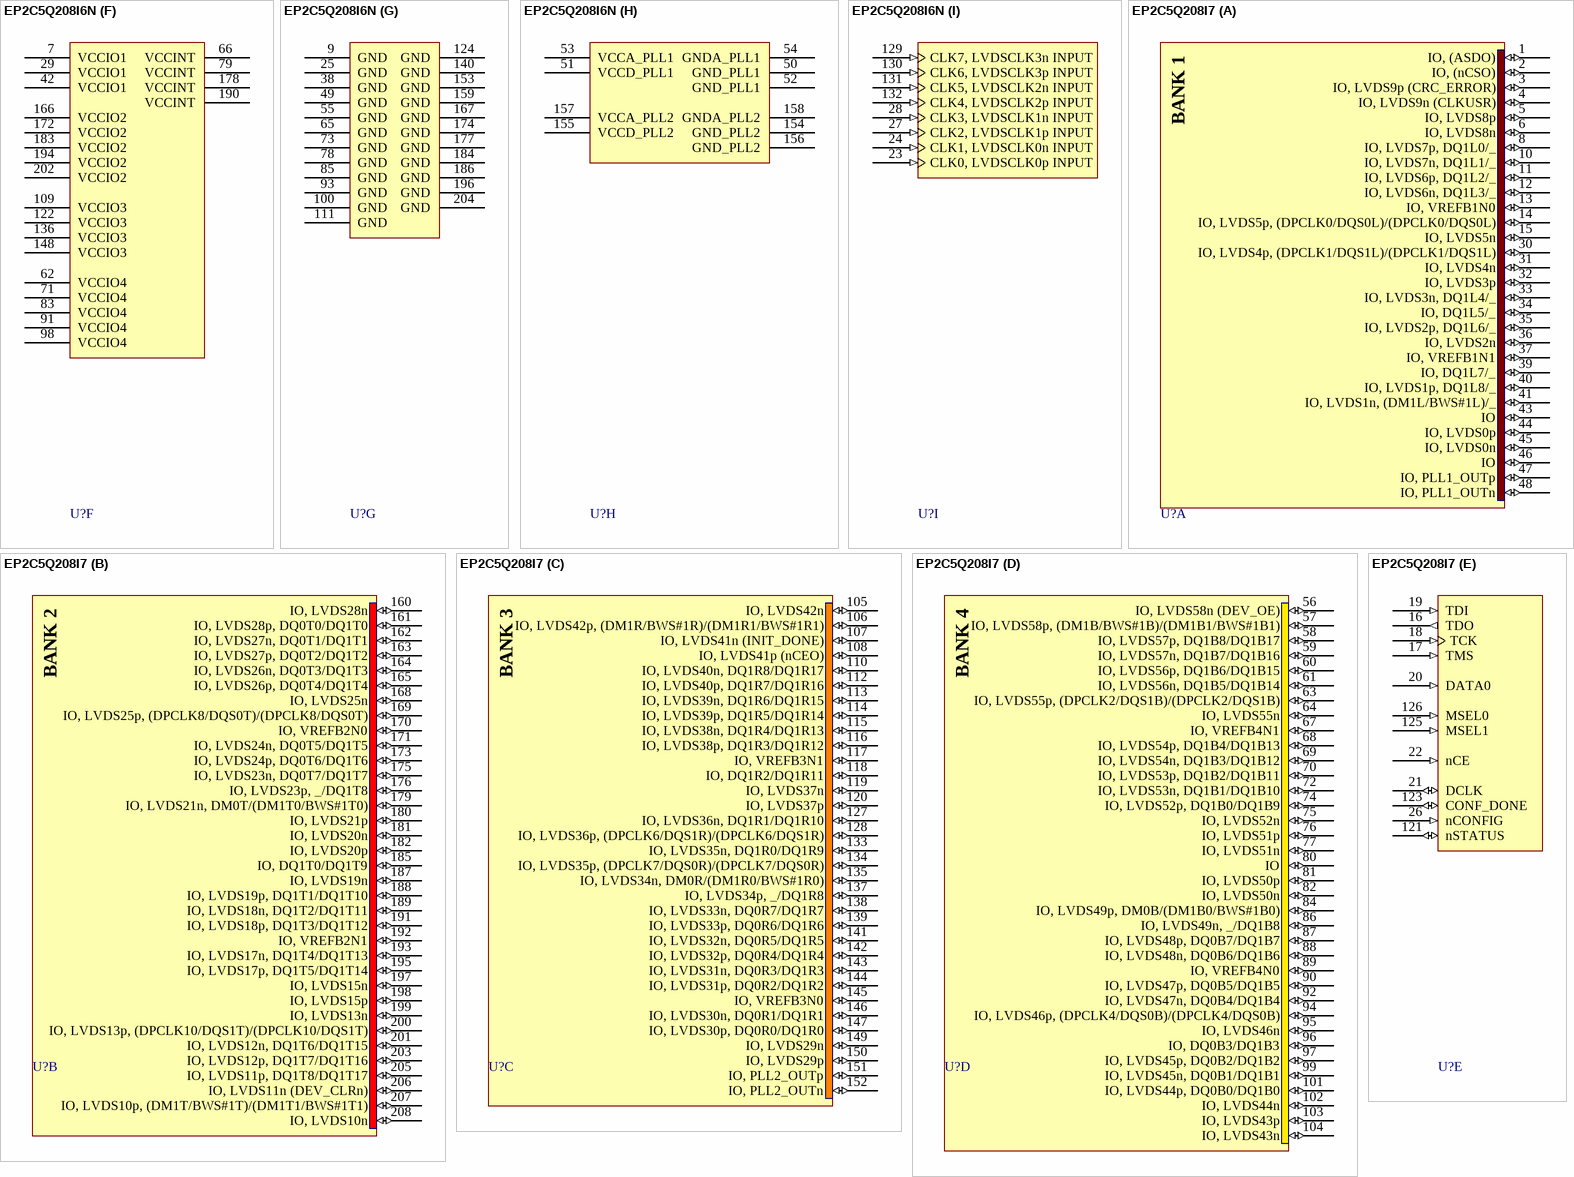
[diagram p23: symbols EP2C5Q208I6N to EP2C5Q208I7]

## EP2C5Q208I6N
designator U?
Cyclone II Family, 1.2V FPGA, 142 I/O Pins, 2 PLLs, 208-Pin PQFP, Speed Grade 6, Industrial Grade, Pb-Free; Note: DQS signal pins named according to DQ bus modes.  "/" separates each mode. ie. Modes x8/x9 / Modes x16/x18.; Published: 2-Mar-2006; LatestRevisionDate: 14-May-2007; LatestRevisionNote: DATA0 pin is now INPUT.; DatasheetVersion: ver3.3, Feb-2008; PackageVersion: ver15.4, Dec-2008; PackageReference: PQFP208; Publisher: Altium Limited; PackageDescription: 208-Pin Plastic Quad Flat Pack (PQFP208) - Wire Bond; Status: Not listed in latest datasheet.; Code_JEDEC: MS-029-FA-1; ComponentLink1Description: Manufacturer Link; ComponentLink1URL: http://www.altera.com/products/devices/cyclone2/cy2-index.jsp; ComponentLink2Description: Handbook; ComponentLink2URL: http://www.altera.com/literature/hb/cyc2/cyc2_cii5v1.pdf; ComponentLink3Description: Packaging Specification; ComponentLink3URL: http://www.altera.com/literature/ds/dspkg.pdf
footprint PQFP208_N (Shrink QFP, 208-Leads, Body 28x28mm, Pitch 0.5mm, IPC Medium Density)
footprint PQFP208_L (Shrink QFP, 208-Leads, Body 28x28mm, Pitch 0.5mm, IPC High Density)
footprint PQFP208_M (Shrink QFP, 208-Leads, Body 28x28mm, Pitch 0.5mm, IPC Low Density)
3D model EP2C5-PQFP208 (208-Pin Plastic Quad Flat Pack (PQFP208) - Wire Bond)
signal-integrity model EP2C5Q_208 (Cyclone II)
part A pins: 1 IO, (ASDO) (io), 2 IO, (nCSO) (io), 3 IO, LVDS9p (CRC_ERROR) (io), 4 IO, LVDS9n (CLKUSR) (io), 5 IO, LVDS8p (io), 6 IO, LVDS8n (io), 8 IO, LVDS7p, DQ1L0/_ (io), 10 IO, LVDS7n, DQ1L1/_ (io), 11 IO, LVDS6p, DQ1L2/_ (io), 12 IO, LVDS6n, DQ1L3/_ (io), 13 IO, VREFB1N0 (io), 14 IO, LVDS5p, (DPCLK0/DQS0L)/(DPCLK0/DQS0L) (io), 15 IO, LVDS5n (io), 30 IO, LVDS4p, (DPCLK1/DQS1L)/(DPCLK1/DQS1L) (io), 31 IO, LVDS4n (io), 32 IO, LVDS3p (io), 33 IO, LVDS3n, DQ1L4/_ (io), 34 IO, DQ1L5/_ (io), 35 IO, LVDS2p, DQ1L6/_ (io), 36 IO, LVDS2n (io), 37 IO, VREFB1N1 (io), 39 IO, DQ1L7/_ (io), 40 IO, LVDS1p, DQ1L8/_ (io), 41 IO, LVDS1n, (DM1L/BWS#1L)/_ (io), 43 IO (io), 44 IO, LVDS0p (io), 45 IO, LVDS0n (io), 46 IO (io), 47 IO, PLL1_OUTp (io), 48 IO, PLL1_OUTn (io)
part B pins: 160 IO, LVDS28n (io), 161 IO, LVDS28p, DQ0T0/DQ1T0 (io), 162 IO, LVDS27n, DQ0T1/DQ1T1 (io), 163 IO, LVDS27p, DQ0T2/DQ1T2 (io), 164 IO, LVDS26n, DQ0T3/DQ1T3 (io), 165 IO, LVDS26p, DQ0T4/DQ1T4 (io), 168 IO, LVDS25n (io), 169 IO, LVDS25p, (DPCLK8/DQS0T)/(DPCLK8/DQS0T) (io), 170 IO, VREFB2N0 (io), 171 IO, LVDS24n, DQ0T5/DQ1T5 (io), 173 IO, LVDS24p, DQ0T6/DQ1T6 (io), 175 IO, LVDS23n, DQ0T7/DQ1T7 (io), 176 IO, LVDS23p, _/DQ1T8 (io), 179 IO, LVDS21n, DM0T/(DM1T0/BWS#1T0) (io), 180 IO, LVDS21p (io), 181 IO, LVDS20n (io), 182 IO, LVDS20p (io), 185 IO, DQ1T0/DQ1T9 (io), 187 IO, LVDS19n (io), 188 IO, LVDS19p, DQ1T1/DQ1T10 (io), 189 IO, LVDS18n, DQ1T2/DQ1T11 (io), 191 IO, LVDS18p, DQ1T3/DQ1T12 (io), 192 IO, VREFB2N1 (io), 193 IO, LVDS17n, DQ1T4/DQ1T13 (io), 195 IO, LVDS17p, DQ1T5/DQ1T14 (io), 197 IO, LVDS15n (io), 198 IO, LVDS15p (io), 199 IO, LVDS13n (io), 200 IO, LVDS13p, (DPCLK10/DQS1T)/(DPCLK10/DQS1T) (io), 201 IO, LVDS12n, DQ1T6/DQ1T15 (io), 203 IO, LVDS12p, DQ1T7/DQ1T16 (io), 205 IO, LVDS11p, DQ1T8/DQ1T17 (io), 206 IO, LVDS11n (DEV_CLRn) (io), 207 IO, LVDS10p, (DM1T/BWS#1T)/(DM1T1/BWS#1T1) (io), 208 IO, LVDS10n (io)
part C pins: 105 IO, LVDS42n (io), 106 IO, LVDS42p, (DM1R/BWS#1R)/(DM1R1/BWS#1R1) (io), 107 IO, LVDS41n (INIT_DONE) (io), 108 IO, LVDS41p (nCEO) (io), 110 IO, LVDS40n, DQ1R8/DQ1R17 (io), 112 IO, LVDS40p, DQ1R7/DQ1R16 (io), 113 IO, LVDS39n, DQ1R6/DQ1R15 (io), 114 IO, LVDS39p, DQ1R5/DQ1R14 (io), 115 IO, LVDS38n, DQ1R4/DQ1R13 (io), 116 IO, LVDS38p, DQ1R3/DQ1R12 (io), 117 IO, VREFB3N1 (io), 118 IO, DQ1R2/DQ1R11 (io), 119 IO, LVDS37n (io), 120 IO, LVDS37p (io), 127 IO, LVDS36n, DQ1R1/DQ1R10 (io), 128 IO, LVDS36p, (DPCLK6/DQS1R)/(DPCLK6/DQS1R) (io), 133 IO, LVDS35n, DQ1R0/DQ1R9 (io), 134 IO, LVDS35p, (DPCLK7/DQS0R)/(DPCLK7/DQS0R) (io), 135 IO, LVDS34n, DM0R/(DM1R0/BWS#1R0) (io), 137 IO, LVDS34p, _/DQ1R8 (io), 138 IO, LVDS33n, DQ0R7/DQ1R7 (io), 139 IO, LVDS33p, DQ0R6/DQ1R6 (io), 141 IO, LVDS32n, DQ0R5/DQ1R5 (io), 142 IO, LVDS32p, DQ0R4/DQ1R4 (io), 143 IO, LVDS31n, DQ0R3/DQ1R3 (io), 144 IO, LVDS31p, DQ0R2/DQ1R2 (io), 145 IO, VREFB3N0 (io), 146 IO, LVDS30n, DQ0R1/DQ1R1 (io), 147 IO, LVDS30p, DQ0R0/DQ1R0 (io), 149 IO, LVDS29n (io), 150 IO, LVDS29p (io), 151 IO, PLL2_OUTp (io), 152 IO, PLL2_OUTn (io)
part D pins: 56 IO, LVDS58n (DEV_OE) (io), 57 IO, LVDS58p, (DM1B/BWS#1B)/(DM1B1/BWS#1B1) (io), 58 IO, LVDS57p, DQ1B8/DQ1B17 (io), 59 IO, LVDS57n, DQ1B7/DQ1B16 (io), 60 IO, LVDS56p, DQ1B6/DQ1B15 (io), 61 IO, LVDS56n, DQ1B5/DQ1B14 (io), 63 IO, LVDS55p, (DPCLK2/DQS1B)/(DPCLK2/DQS1B) (io), 64 IO, LVDS55n (io), 67 IO, VREFB4N1 (io), 68 IO, LVDS54p, DQ1B4/DQ1B13 (io), 69 IO, LVDS54n, DQ1B3/DQ1B12 (io), 70 IO, LVDS53p, DQ1B2/DQ1B11 (io), 72 IO, LVDS53n, DQ1B1/DQ1B10 (io), 74 IO, LVDS52p, DQ1B0/DQ1B9 (io), 75 IO, LVDS52n (io), 76 IO, LVDS51p (io), 77 IO, LVDS51n (io), 80 IO (io), 81 IO, LVDS50p (io), 82 IO, LVDS50n (io), 84 IO, LVDS49p, DM0B/(DM1B0/BWS#1B0) (io), 86 IO, LVDS49n, _/DQ1B8 (io), 87 IO, LVDS48p, DQ0B7/DQ1B7 (io), 88 IO, LVDS48n, DQ0B6/DQ1B6 (io), 89 IO, VREFB4N0 (io), 90 IO, LVDS47p, DQ0B5/DQ1B5 (io), 92 IO, LVDS47n, DQ0B4/DQ1B4 (io), 94 IO, LVDS46p, (DPCLK4/DQS0B)/(DPCLK4/DQS0B) (io), 95 IO, LVDS46n (io), 96 IO, DQ0B3/DQ1B3 (io), 97 IO, LVDS45p, DQ0B2/DQ1B2 (io), 99 IO, LVDS45n, DQ0B1/DQ1B1 (io), 101 IO, LVDS44p, DQ0B0/DQ1B0 (io), 102 IO, LVDS44n (io), 103 IO, LVDS43p (io), 104 IO, LVDS43n (io)
part E pins: 16 TDO (out), 17 TMS (in), 18 TCK (in), 19 TDI (in), 20 DATA0 (in), 21 DCLK (io), 22 nCE (in), 26 nCONFIG (in), 121 nSTATUS (io), 123 CONF_DONE (io), 125 MSEL1 (in), 126 MSEL0 (in)
part F pins: 7 VCCIO1 (power), 29 VCCIO1 (power), 42 VCCIO1 (power), 62 VCCIO4 (power), 66 VCCINT (power), 71 VCCIO4 (power), 79 VCCINT (power), 83 VCCIO4 (power), 91 VCCIO4 (power), 98 VCCIO4 (power), 109 VCCIO3 (power), 122 VCCIO3 (power), 136 VCCIO3 (power), 148 VCCIO3 (power), 166 VCCIO2 (power), 172 VCCIO2 (power), 178 VCCINT (power), 183 VCCIO2 (power), 190 VCCINT (power), 194 VCCIO2 (power), 202 VCCIO2 (power)
part G pins: 9 GND (power), 25 GND (power), 38 GND (power), 49 GND (power), 55 GND (power), 65 GND (power), 73 GND (power), 78 GND (power), 85 GND (power), 93 GND (power), 100 GND (power), 111 GND (power), 124 GND (power), 140 GND (power), 153 GND (power), 159 GND (power), 167 GND (power), 174 GND (power), 177 GND (power), 184 GND (power), 186 GND (power), 196 GND (power), 204 GND (power)
part H pins: 50 GND_PLL1 (power), 51 VCCD_PLL1 (power), 52 GND_PLL1 (power), 53 VCCA_PLL1 (power), 54 GNDA_PLL1 (power), 154 GND_PLL2 (power), 155 VCCD_PLL2 (power), 156 GND_PLL2 (power), 157 VCCA_PLL2 (power), 158 GNDA_PLL2 (power)
part I pins: 23 CLK0, LVDSCLK0p INPUT (in), 24 CLK1, LVDSCLK0n INPUT (in), 27 CLK2, LVDSCLK1p INPUT (in), 28 CLK3, LVDSCLK1n INPUT (in), 129 CLK7, LVDSCLK3n INPUT (in), 130 CLK6, LVDSCLK3p INPUT (in), 131 CLK5, LVDSCLK2n INPUT (in), 132 CLK4, LVDSCLK2p INPUT (in)
part A text: BANK 1
part B text: BANK 2
part C text: BANK 3
part D text: BANK 4

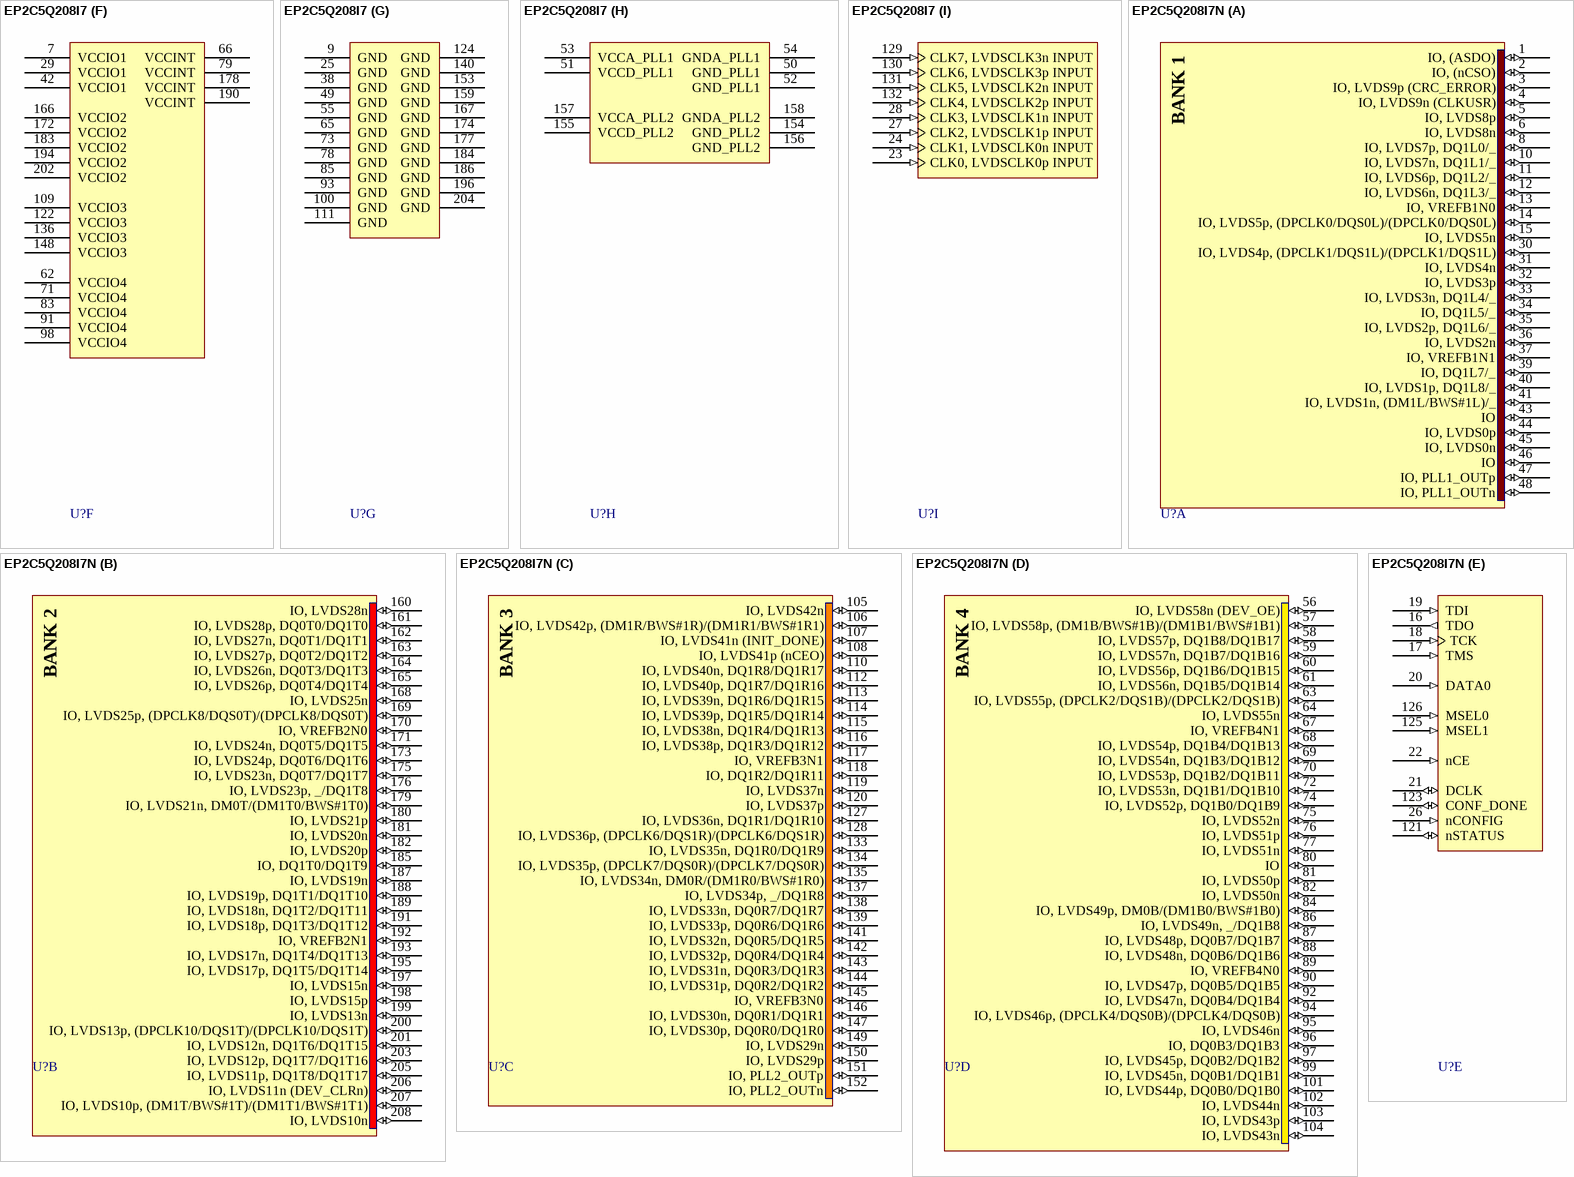
[diagram p24: symbols EP2C5Q208I7 to EP2C5Q208I7N]

## EP2C5Q208I7
designator U?
Cyclone II Family, 1.2V FPGA, 142 I/O Pins, 2 PLLs, 208-Pin PQFP, Speed Grade 7, Industrial Grade; Note: DQS signal pins named according to DQ bus modes.  "/" separates each mode. ie. Modes x8/x9 / Modes x16/x18.; Published: 18-Aug-2005; LatestRevisionDate: 14-May-2007; LatestRevisionNote: DATA0 pin is now INPUT.; DatasheetVersion: ver3.3, Feb-2008; PackageVersion: ver15.4, Dec-2008; PackageReference: PQFP208; Publisher: Altium Limited; PackageDescription: 208-Pin Plastic Quad Flat Pack (PQFP208) - Wire Bond; Code_JEDEC: MS-029-FA-1; ComponentLink1Description: Manufacturer Link; ComponentLink1URL: http://www.altera.com/products/devices/cyclone2/cy2-index.jsp; ComponentLink2Description: Handbook; ComponentLink2URL: http://www.altera.com/literature/hb/cyc2/cyc2_cii5v1.pdf; ComponentLink3Description: Packaging Specification; ComponentLink3URL: http://www.altera.com/literature/ds/dspkg.pdf
footprint PQFP208_N (Shrink QFP, 208-Leads, Body 28x28mm, Pitch 0.5mm, IPC Medium Density)
footprint PQFP208_L (Shrink QFP, 208-Leads, Body 28x28mm, Pitch 0.5mm, IPC High Density)
footprint PQFP208_M (Shrink QFP, 208-Leads, Body 28x28mm, Pitch 0.5mm, IPC Low Density)
3D model EP2C5-PQFP208 (208-Pin Plastic Quad Flat Pack (PQFP208) - Wire Bond)
signal-integrity model EP2C5Q_208 (Cyclone II)
part A pins: 1 IO, (ASDO) (io), 2 IO, (nCSO) (io), 3 IO, LVDS9p (CRC_ERROR) (io), 4 IO, LVDS9n (CLKUSR) (io), 5 IO, LVDS8p (io), 6 IO, LVDS8n (io), 8 IO, LVDS7p, DQ1L0/_ (io), 10 IO, LVDS7n, DQ1L1/_ (io), 11 IO, LVDS6p, DQ1L2/_ (io), 12 IO, LVDS6n, DQ1L3/_ (io), 13 IO, VREFB1N0 (io), 14 IO, LVDS5p, (DPCLK0/DQS0L)/(DPCLK0/DQS0L) (io), 15 IO, LVDS5n (io), 30 IO, LVDS4p, (DPCLK1/DQS1L)/(DPCLK1/DQS1L) (io), 31 IO, LVDS4n (io), 32 IO, LVDS3p (io), 33 IO, LVDS3n, DQ1L4/_ (io), 34 IO, DQ1L5/_ (io), 35 IO, LVDS2p, DQ1L6/_ (io), 36 IO, LVDS2n (io), 37 IO, VREFB1N1 (io), 39 IO, DQ1L7/_ (io), 40 IO, LVDS1p, DQ1L8/_ (io), 41 IO, LVDS1n, (DM1L/BWS#1L)/_ (io), 43 IO (io), 44 IO, LVDS0p (io), 45 IO, LVDS0n (io), 46 IO (io), 47 IO, PLL1_OUTp (io), 48 IO, PLL1_OUTn (io)
part B pins: 160 IO, LVDS28n (io), 161 IO, LVDS28p, DQ0T0/DQ1T0 (io), 162 IO, LVDS27n, DQ0T1/DQ1T1 (io), 163 IO, LVDS27p, DQ0T2/DQ1T2 (io), 164 IO, LVDS26n, DQ0T3/DQ1T3 (io), 165 IO, LVDS26p, DQ0T4/DQ1T4 (io), 168 IO, LVDS25n (io), 169 IO, LVDS25p, (DPCLK8/DQS0T)/(DPCLK8/DQS0T) (io), 170 IO, VREFB2N0 (io), 171 IO, LVDS24n, DQ0T5/DQ1T5 (io), 173 IO, LVDS24p, DQ0T6/DQ1T6 (io), 175 IO, LVDS23n, DQ0T7/DQ1T7 (io), 176 IO, LVDS23p, _/DQ1T8 (io), 179 IO, LVDS21n, DM0T/(DM1T0/BWS#1T0) (io), 180 IO, LVDS21p (io), 181 IO, LVDS20n (io), 182 IO, LVDS20p (io), 185 IO, DQ1T0/DQ1T9 (io), 187 IO, LVDS19n (io), 188 IO, LVDS19p, DQ1T1/DQ1T10 (io), 189 IO, LVDS18n, DQ1T2/DQ1T11 (io), 191 IO, LVDS18p, DQ1T3/DQ1T12 (io), 192 IO, VREFB2N1 (io), 193 IO, LVDS17n, DQ1T4/DQ1T13 (io), 195 IO, LVDS17p, DQ1T5/DQ1T14 (io), 197 IO, LVDS15n (io), 198 IO, LVDS15p (io), 199 IO, LVDS13n (io), 200 IO, LVDS13p, (DPCLK10/DQS1T)/(DPCLK10/DQS1T) (io), 201 IO, LVDS12n, DQ1T6/DQ1T15 (io), 203 IO, LVDS12p, DQ1T7/DQ1T16 (io), 205 IO, LVDS11p, DQ1T8/DQ1T17 (io), 206 IO, LVDS11n (DEV_CLRn) (io), 207 IO, LVDS10p, (DM1T/BWS#1T)/(DM1T1/BWS#1T1) (io), 208 IO, LVDS10n (io)
part C pins: 105 IO, LVDS42n (io), 106 IO, LVDS42p, (DM1R/BWS#1R)/(DM1R1/BWS#1R1) (io), 107 IO, LVDS41n (INIT_DONE) (io), 108 IO, LVDS41p (nCEO) (io), 110 IO, LVDS40n, DQ1R8/DQ1R17 (io), 112 IO, LVDS40p, DQ1R7/DQ1R16 (io), 113 IO, LVDS39n, DQ1R6/DQ1R15 (io), 114 IO, LVDS39p, DQ1R5/DQ1R14 (io), 115 IO, LVDS38n, DQ1R4/DQ1R13 (io), 116 IO, LVDS38p, DQ1R3/DQ1R12 (io), 117 IO, VREFB3N1 (io), 118 IO, DQ1R2/DQ1R11 (io), 119 IO, LVDS37n (io), 120 IO, LVDS37p (io), 127 IO, LVDS36n, DQ1R1/DQ1R10 (io), 128 IO, LVDS36p, (DPCLK6/DQS1R)/(DPCLK6/DQS1R) (io), 133 IO, LVDS35n, DQ1R0/DQ1R9 (io), 134 IO, LVDS35p, (DPCLK7/DQS0R)/(DPCLK7/DQS0R) (io), 135 IO, LVDS34n, DM0R/(DM1R0/BWS#1R0) (io), 137 IO, LVDS34p, _/DQ1R8 (io), 138 IO, LVDS33n, DQ0R7/DQ1R7 (io), 139 IO, LVDS33p, DQ0R6/DQ1R6 (io), 141 IO, LVDS32n, DQ0R5/DQ1R5 (io), 142 IO, LVDS32p, DQ0R4/DQ1R4 (io), 143 IO, LVDS31n, DQ0R3/DQ1R3 (io), 144 IO, LVDS31p, DQ0R2/DQ1R2 (io), 145 IO, VREFB3N0 (io), 146 IO, LVDS30n, DQ0R1/DQ1R1 (io), 147 IO, LVDS30p, DQ0R0/DQ1R0 (io), 149 IO, LVDS29n (io), 150 IO, LVDS29p (io), 151 IO, PLL2_OUTp (io), 152 IO, PLL2_OUTn (io)
part D pins: 56 IO, LVDS58n (DEV_OE) (io), 57 IO, LVDS58p, (DM1B/BWS#1B)/(DM1B1/BWS#1B1) (io), 58 IO, LVDS57p, DQ1B8/DQ1B17 (io), 59 IO, LVDS57n, DQ1B7/DQ1B16 (io), 60 IO, LVDS56p, DQ1B6/DQ1B15 (io), 61 IO, LVDS56n, DQ1B5/DQ1B14 (io), 63 IO, LVDS55p, (DPCLK2/DQS1B)/(DPCLK2/DQS1B) (io), 64 IO, LVDS55n (io), 67 IO, VREFB4N1 (io), 68 IO, LVDS54p, DQ1B4/DQ1B13 (io), 69 IO, LVDS54n, DQ1B3/DQ1B12 (io), 70 IO, LVDS53p, DQ1B2/DQ1B11 (io), 72 IO, LVDS53n, DQ1B1/DQ1B10 (io), 74 IO, LVDS52p, DQ1B0/DQ1B9 (io), 75 IO, LVDS52n (io), 76 IO, LVDS51p (io), 77 IO, LVDS51n (io), 80 IO (io), 81 IO, LVDS50p (io), 82 IO, LVDS50n (io), 84 IO, LVDS49p, DM0B/(DM1B0/BWS#1B0) (io), 86 IO, LVDS49n, _/DQ1B8 (io), 87 IO, LVDS48p, DQ0B7/DQ1B7 (io), 88 IO, LVDS48n, DQ0B6/DQ1B6 (io), 89 IO, VREFB4N0 (io), 90 IO, LVDS47p, DQ0B5/DQ1B5 (io), 92 IO, LVDS47n, DQ0B4/DQ1B4 (io), 94 IO, LVDS46p, (DPCLK4/DQS0B)/(DPCLK4/DQS0B) (io), 95 IO, LVDS46n (io), 96 IO, DQ0B3/DQ1B3 (io), 97 IO, LVDS45p, DQ0B2/DQ1B2 (io), 99 IO, LVDS45n, DQ0B1/DQ1B1 (io), 101 IO, LVDS44p, DQ0B0/DQ1B0 (io), 102 IO, LVDS44n (io), 103 IO, LVDS43p (io), 104 IO, LVDS43n (io)
part E pins: 16 TDO (out), 17 TMS (in), 18 TCK (in), 19 TDI (in), 20 DATA0 (in), 21 DCLK (io), 22 nCE (in), 26 nCONFIG (in), 121 nSTATUS (io), 123 CONF_DONE (io), 125 MSEL1 (in), 126 MSEL0 (in)
part F pins: 7 VCCIO1 (power), 29 VCCIO1 (power), 42 VCCIO1 (power), 62 VCCIO4 (power), 66 VCCINT (power), 71 VCCIO4 (power), 79 VCCINT (power), 83 VCCIO4 (power), 91 VCCIO4 (power), 98 VCCIO4 (power), 109 VCCIO3 (power), 122 VCCIO3 (power), 136 VCCIO3 (power), 148 VCCIO3 (power), 166 VCCIO2 (power), 172 VCCIO2 (power), 178 VCCINT (power), 183 VCCIO2 (power), 190 VCCINT (power), 194 VCCIO2 (power), 202 VCCIO2 (power)
part G pins: 9 GND (power), 25 GND (power), 38 GND (power), 49 GND (power), 55 GND (power), 65 GND (power), 73 GND (power), 78 GND (power), 85 GND (power), 93 GND (power), 100 GND (power), 111 GND (power), 124 GND (power), 140 GND (power), 153 GND (power), 159 GND (power), 167 GND (power), 174 GND (power), 177 GND (power), 184 GND (power), 186 GND (power), 196 GND (power), 204 GND (power)
part H pins: 50 GND_PLL1 (power), 51 VCCD_PLL1 (power), 52 GND_PLL1 (power), 53 VCCA_PLL1 (power), 54 GNDA_PLL1 (power), 154 GND_PLL2 (power), 155 VCCD_PLL2 (power), 156 GND_PLL2 (power), 157 VCCA_PLL2 (power), 158 GNDA_PLL2 (power)
part I pins: 23 CLK0, LVDSCLK0p INPUT (in), 24 CLK1, LVDSCLK0n INPUT (in), 27 CLK2, LVDSCLK1p INPUT (in), 28 CLK3, LVDSCLK1n INPUT (in), 129 CLK7, LVDSCLK3n INPUT (in), 130 CLK6, LVDSCLK3p INPUT (in), 131 CLK5, LVDSCLK2n INPUT (in), 132 CLK4, LVDSCLK2p INPUT (in)
part A text: BANK 1
part B text: BANK 2
part C text: BANK 3
part D text: BANK 4

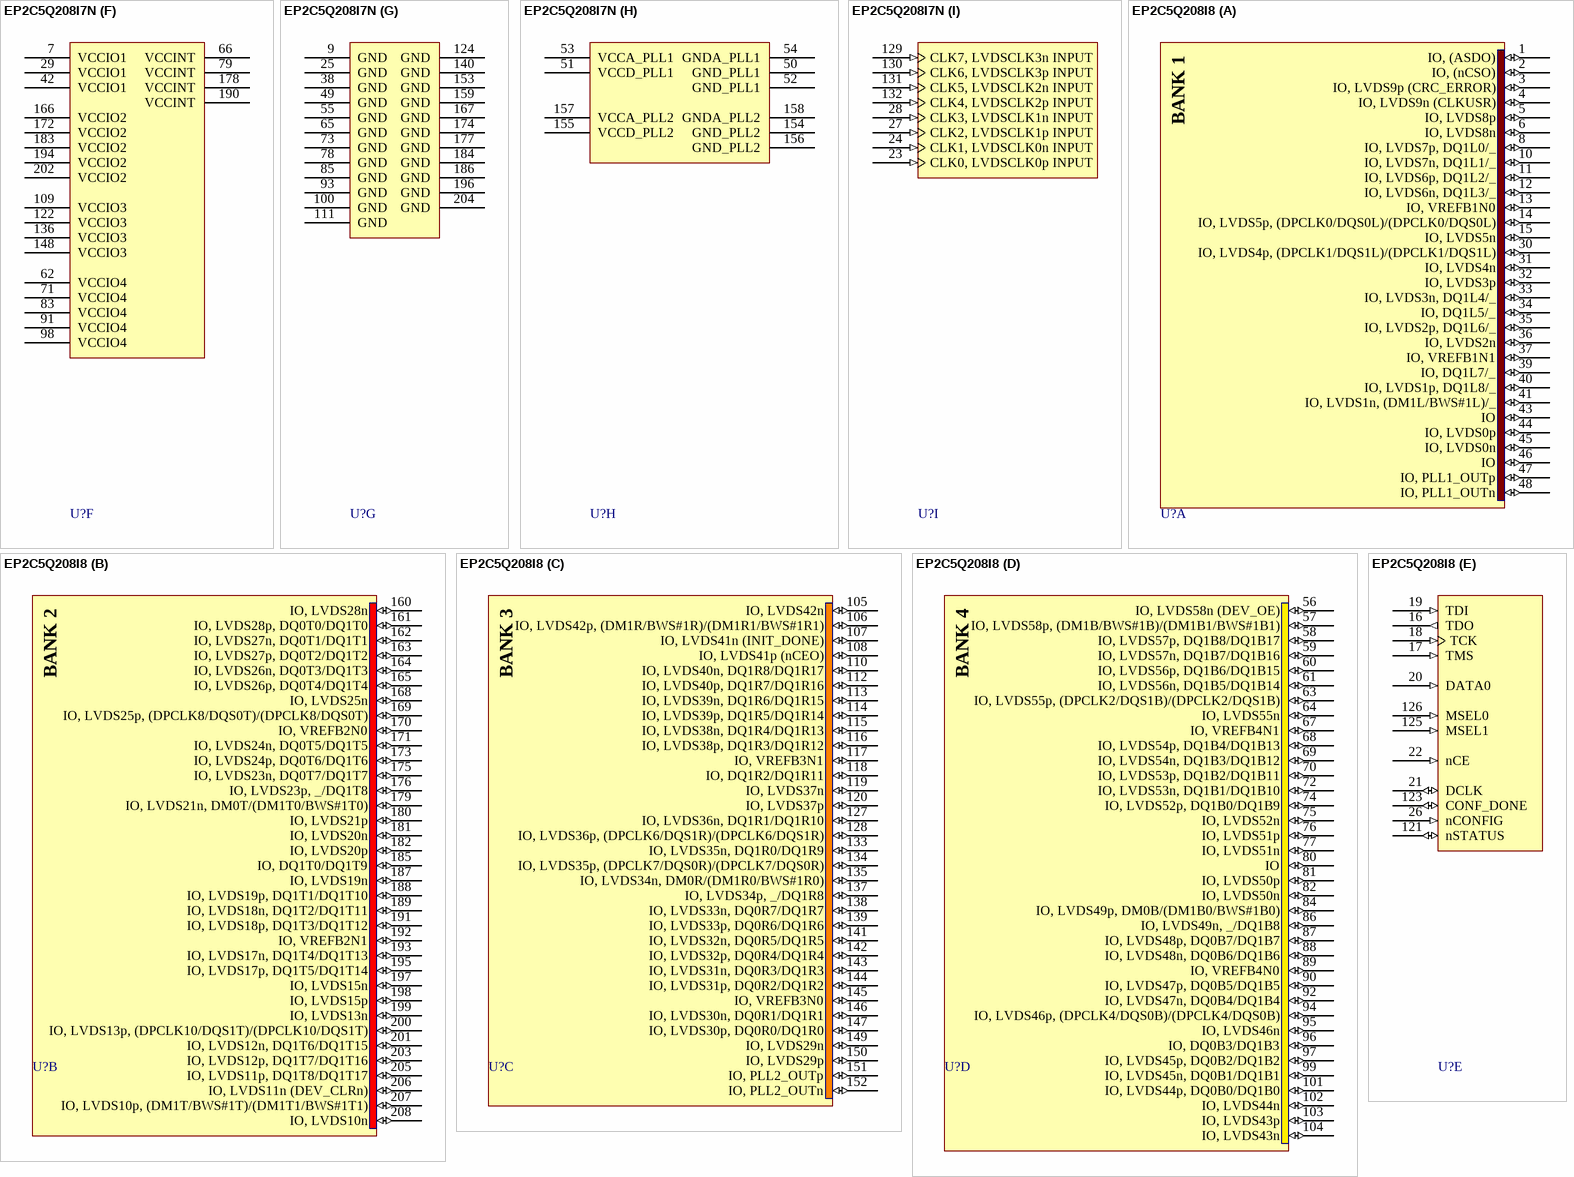
[diagram p25: symbols EP2C5Q208I7N to EP2C5Q208I8]